# Altium integrated library Altera APEX 20K.IntLib: 93 symbols (part 7 of 14)
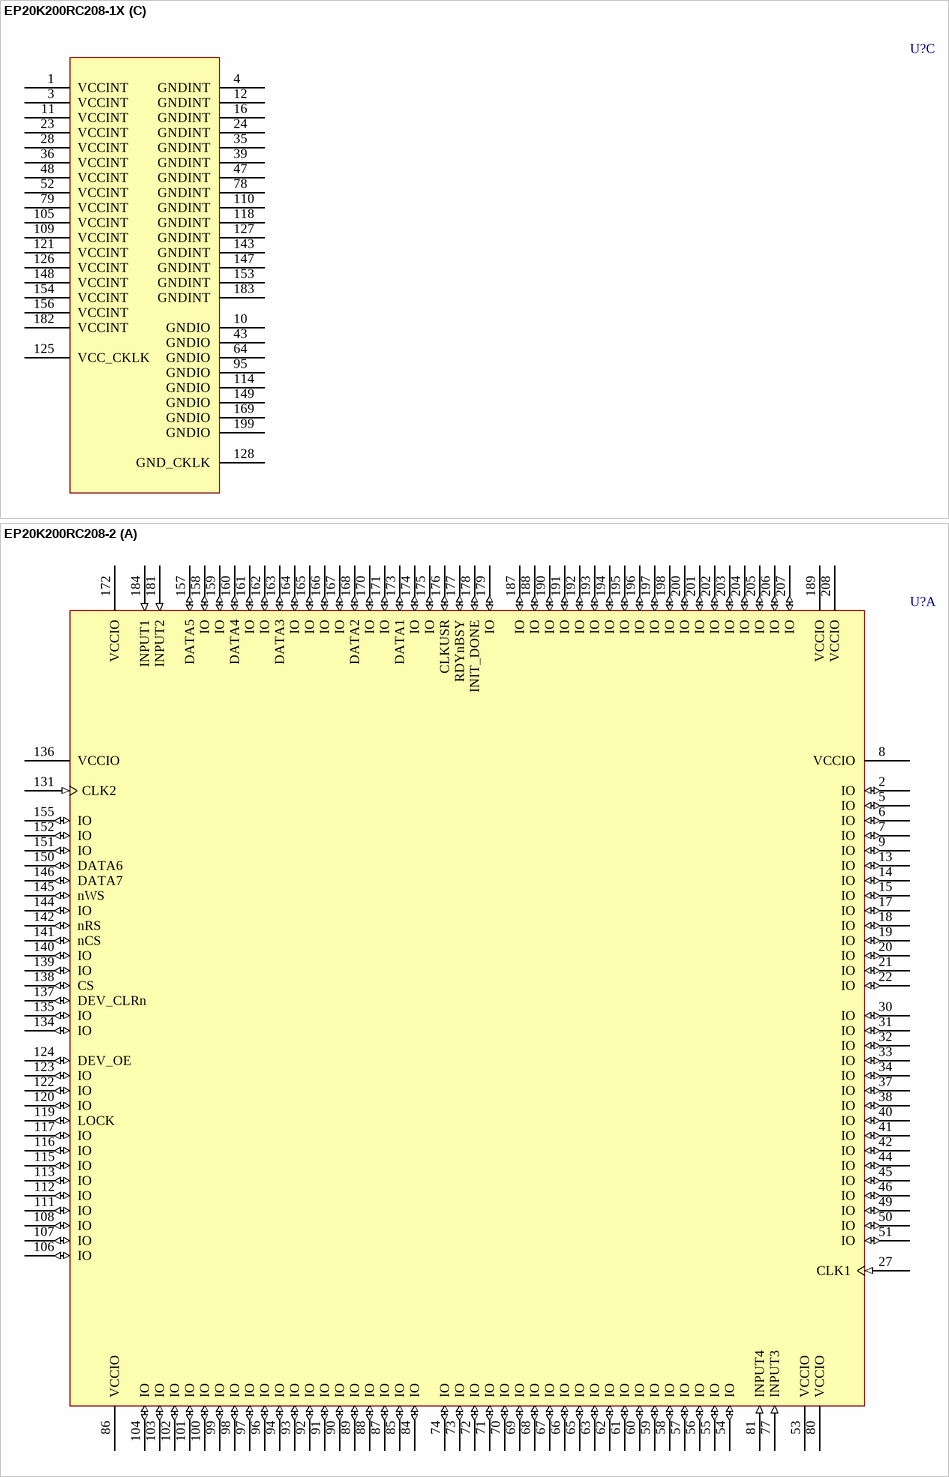
[diagram p205: symbols EP20K200RC208-1X to EP20K200RC208-2]

## EP20K200RC208-1X
designator U?
APEX 20K200 PLD with PLLs, 208-Pin RQFP, Commercial Grade, Speed Grade 1; Published: 17-Jul-2002; LatestRevisionDate: 13-Apr-2006; LatestRevisionNote: IPC-7351 Footprint Added.; DatasheetVersion: Mar-2004; PackageVersion: ver14.1, Oct-2005; PackageReference: RQFP208; Publisher: Altium Limited; PackageDescription: 208-Pin Power Quad Flat Pack (RQFP208); Code_JEDEC: MS-029-FA-1; ComponentLink1Description: Manufacturer Link; ComponentLink1URL: http://www.altera.com/products/devices/apex/apx-index.html; ComponentLink2Description: Datasheet; ComponentLink2URL: http://www.altera.com/literature/ds/apex.pdf
footprint RQFP208_N (Shrink QFP, 208-Leads, Body 28x28mm, Pitch 0.5mm, IPC Medium Density)
footprint RQFP208_L (Shrink QFP, 208-Leads, Body 28x28mm, Pitch 0.5mm, IPC High Density)
footprint RQFP208_M (Shrink QFP, 208-Leads, Body 28x28mm, Pitch 0.5mm, IPC Low Density)
3D model EP20K200-RQFP208 (208-Pin Power Quad Flat Pack (RQFP208))
part A pins: 2 IO (io), 5 IO (io), 6 IO (io), 7 IO (io), 8 VCCIO (power), 9 IO (io), 13 IO (io), 14 IO (io), 15 IO (io), 17 IO (io), 18 IO (io), 19 IO (io), 20 IO (io), 21 IO (io), 22 IO (io), 27 CLK1 (in), 30 IO (io), 31 IO (io), 32 IO (io), 33 IO (io), 34 IO (io), 37 IO (io), 38 IO (io), 40 IO (io), 41 IO (io), 42 IO (io), 44 IO (io), 45 IO (io), 46 IO (io), 49 IO (io), 50 IO (io), 51 IO (io), 53 VCCIO (power), 54 IO (io), 55 IO (io), 56 IO (io), 57 IO (io), 58 IO (io), 59 IO (io), 60 IO (io), 61 IO (io), 62 IO (io), 63 IO (io), 65 IO (io), 66 IO (io), 67 IO (io), 68 IO (io), 69 IO (io), 70 IO (io), 71 IO (io), 72 IO (io), 73 IO (io), 74 IO (io), 77 INPUT3 (in), 80 VCCIO (power), 81 INPUT4 (in), 84 IO (io), 85 IO (io), 86 VCCIO (power), 87 IO (io), 88 IO (io), 89 IO (io), 90 IO (io), 91 IO (io), 92 IO (io), 93 IO (io), 94 IO (io), 96 IO (io), 97 IO (io), 98 IO (io), 99 IO (io), 100 IO (io), 101 IO (io), 102 IO (io), 103 IO (io), 104 IO (io), 106 IO (io), 107 IO (io), 108 IO (io), 111 IO (io), 112 IO (io), 113 IO (io), 115 IO (io), 116 IO (io), 117 IO (io), 119 LOCK (io), 120 IO (io), 122 IO (io), 123 IO (io), 124 DEV_OE (io), 131 CLK2 (in), 134 IO (io), 135 IO (io), 136 VCCIO (power), 137 DEV_CLRn (io), 138 CS (io), 139 IO (io), 140 IO (io), 141 nCS (io), 142 nRS (io), 144 IO (io), 145 nWS (io), 146 DATA7 (io), 150 DATA6 (io), 151 IO (io), 152 IO (io), 155 IO (io), 157 DATA5 (io), 158 IO (io), 159 IO (io), 160 DATA4 (io), 161 IO (io), 162 IO (io), 163 DATA3 (io), 164 IO (io), 165 IO (io), 166 IO (io), 167 IO (io), 168 DATA2 (io), 170 IO (io), 171 IO (io), 172 VCCIO (power), 173 DATA1 (io), 174 IO (io), 175 IO (io), 176 CLKUSR (io), 177 RDYnBSY (io), 178 INIT_DONE (io), 179 IO (io), 181 INPUT2 (in), 184 INPUT1 (in), 187 IO (io), 188 IO (io), 189 VCCIO (power), 190 IO (io), 191 IO (io), 192 IO (io), 193 IO (io), 194 IO (io), 195 IO (io), 196 IO (io), 197 IO (io), 198 IO (io), 200 IO (io), 201 IO (io), 202 IO (io), 203 IO (io), 204 IO (io), 205 IO (io), 206 IO (io), 207 IO (io), 208 VCCIO (power)
part B pins: 25 MSEL0 (in), 26 MSEL1 (in), 29 nCONFIG (in), 75 TMS (in), 76 TCK (in), 82 nSTATUS (io), 83 CONF_DONE (io), 129 TDI (in), 130 nCE (in), 132 DCLK (in), 133 DATA0 (in), 180 TDO (out), 185 nCEO (out), 186 TRST (in)
part C pins: 1 VCCINT (power), 3 VCCINT (power), 4 GNDINT (power), 10 GNDIO (power), 11 VCCINT (power), 12 GNDINT (power), 16 GNDINT (power), 23 VCCINT (power), 24 GNDINT (power), 28 VCCINT (power), 35 GNDINT (power), 36 VCCINT (power), 39 GNDINT (power), 43 GNDIO (power), 47 GNDINT (power), 48 VCCINT (power), 52 VCCINT (power), 64 GNDIO (power), 78 GNDINT (power), 79 VCCINT (power), 95 GNDIO (power), 105 VCCINT (power), 109 VCCINT (power), 110 GNDINT (power), 114 GNDIO (power), 118 GNDINT (power), 121 VCCINT (power), 125 VCC_CKLK (power), 126 VCCINT (power), 127 GNDINT (power), 128 GND_CKLK (power), 143 GNDINT (power), 147 GNDINT (power), 148 VCCINT (power), 149 GNDIO (power), 153 GNDINT (power), 154 VCCINT (power), 156 VCCINT (power), 169 GNDIO (power), 182 VCCINT (power), 183 GNDINT (power), 199 GNDIO (power)

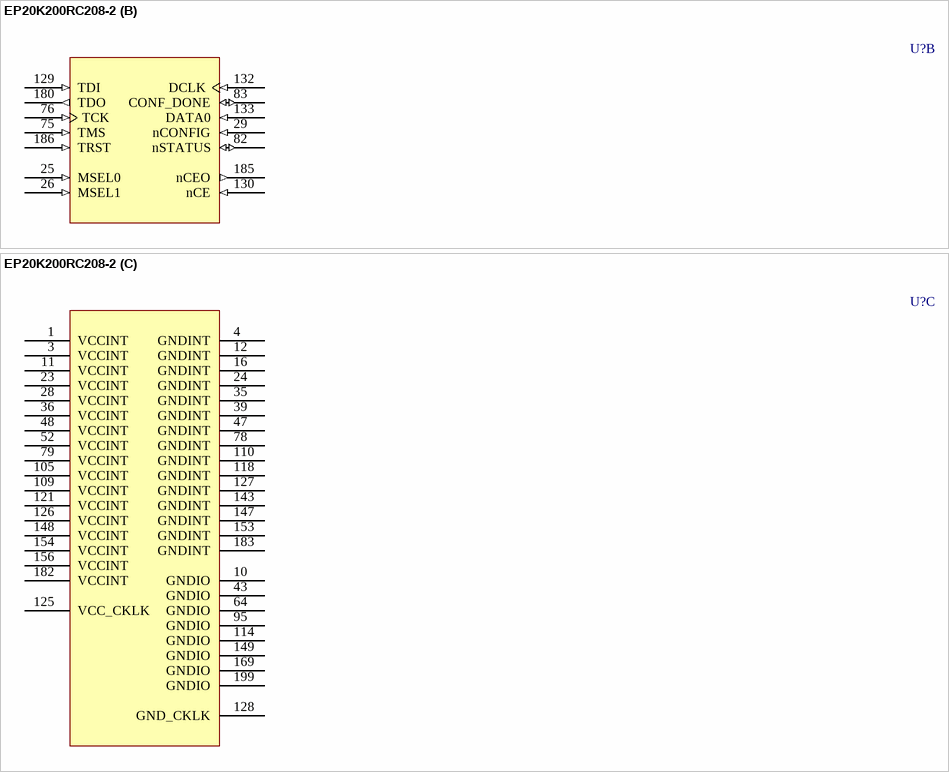
[diagram p72: symbol EP20K200RC208-2]

## EP20K200RC208-2
designator U?
APEX 20K200 PLD, 208-Pin RQFP, Commercial Grade, Speed Grade 2; Published: 17-Jul-2002; LatestRevisionDate: 13-Apr-2006; LatestRevisionNote: IPC-7351 Footprint Added.; DatasheetVersion: Mar-2004; PackageVersion: ver14.1, Oct-2005; PackageReference: RQFP208; Publisher: Altium Limited; PackageDescription: 208-Pin Power Quad Flat Pack (RQFP208); Code_JEDEC: MS-029-FA-1; ComponentLink1Description: Manufacturer Link; ComponentLink1URL: http://www.altera.com/products/devices/apex/apx-index.html; ComponentLink2Description: Datasheet; ComponentLink2URL: http://www.altera.com/literature/ds/apex.pdf
footprint RQFP208_N (Shrink QFP, 208-Leads, Body 28x28mm, Pitch 0.5mm, IPC Medium Density)
footprint RQFP208_L (Shrink QFP, 208-Leads, Body 28x28mm, Pitch 0.5mm, IPC High Density)
footprint RQFP208_M (Shrink QFP, 208-Leads, Body 28x28mm, Pitch 0.5mm, IPC Low Density)
3D model EP20K200-RQFP208 (208-Pin Power Quad Flat Pack (RQFP208))
part A pins: 2 IO (io), 5 IO (io), 6 IO (io), 7 IO (io), 8 VCCIO (power), 9 IO (io), 13 IO (io), 14 IO (io), 15 IO (io), 17 IO (io), 18 IO (io), 19 IO (io), 20 IO (io), 21 IO (io), 22 IO (io), 27 CLK1 (in), 30 IO (io), 31 IO (io), 32 IO (io), 33 IO (io), 34 IO (io), 37 IO (io), 38 IO (io), 40 IO (io), 41 IO (io), 42 IO (io), 44 IO (io), 45 IO (io), 46 IO (io), 49 IO (io), 50 IO (io), 51 IO (io), 53 VCCIO (power), 54 IO (io), 55 IO (io), 56 IO (io), 57 IO (io), 58 IO (io), 59 IO (io), 60 IO (io), 61 IO (io), 62 IO (io), 63 IO (io), 65 IO (io), 66 IO (io), 67 IO (io), 68 IO (io), 69 IO (io), 70 IO (io), 71 IO (io), 72 IO (io), 73 IO (io), 74 IO (io), 77 INPUT3 (in), 80 VCCIO (power), 81 INPUT4 (in), 84 IO (io), 85 IO (io), 86 VCCIO (power), 87 IO (io), 88 IO (io), 89 IO (io), 90 IO (io), 91 IO (io), 92 IO (io), 93 IO (io), 94 IO (io), 96 IO (io), 97 IO (io), 98 IO (io), 99 IO (io), 100 IO (io), 101 IO (io), 102 IO (io), 103 IO (io), 104 IO (io), 106 IO (io), 107 IO (io), 108 IO (io), 111 IO (io), 112 IO (io), 113 IO (io), 115 IO (io), 116 IO (io), 117 IO (io), 119 LOCK (io), 120 IO (io), 122 IO (io), 123 IO (io), 124 DEV_OE (io), 131 CLK2 (in), 134 IO (io), 135 IO (io), 136 VCCIO (power), 137 DEV_CLRn (io), 138 CS (io), 139 IO (io), 140 IO (io), 141 nCS (io), 142 nRS (io), 144 IO (io), 145 nWS (io), 146 DATA7 (io), 150 DATA6 (io), 151 IO (io), 152 IO (io), 155 IO (io), 157 DATA5 (io), 158 IO (io), 159 IO (io), 160 DATA4 (io), 161 IO (io), 162 IO (io), 163 DATA3 (io), 164 IO (io), 165 IO (io), 166 IO (io), 167 IO (io), 168 DATA2 (io), 170 IO (io), 171 IO (io), 172 VCCIO (power), 173 DATA1 (io), 174 IO (io), 175 IO (io), 176 CLKUSR (io), 177 RDYnBSY (io), 178 INIT_DONE (io), 179 IO (io), 181 INPUT2 (in), 184 INPUT1 (in), 187 IO (io), 188 IO (io), 189 VCCIO (power), 190 IO (io), 191 IO (io), 192 IO (io), 193 IO (io), 194 IO (io), 195 IO (io), 196 IO (io), 197 IO (io), 198 IO (io), 200 IO (io), 201 IO (io), 202 IO (io), 203 IO (io), 204 IO (io), 205 IO (io), 206 IO (io), 207 IO (io), 208 VCCIO (power)
part B pins: 25 MSEL0 (in), 26 MSEL1 (in), 29 nCONFIG (in), 75 TMS (in), 76 TCK (in), 82 nSTATUS (io), 83 CONF_DONE (io), 129 TDI (in), 130 nCE (in), 132 DCLK (in), 133 DATA0 (in), 180 TDO (out), 185 nCEO (out), 186 TRST (in)
part C pins: 1 VCCINT (power), 3 VCCINT (power), 4 GNDINT (power), 10 GNDIO (power), 11 VCCINT (power), 12 GNDINT (power), 16 GNDINT (power), 23 VCCINT (power), 24 GNDINT (power), 28 VCCINT (power), 35 GNDINT (power), 36 VCCINT (power), 39 GNDINT (power), 43 GNDIO (power), 47 GNDINT (power), 48 VCCINT (power), 52 VCCINT (power), 64 GNDIO (power), 78 GNDINT (power), 79 VCCINT (power), 95 GNDIO (power), 105 VCCINT (power), 109 VCCINT (power), 110 GNDINT (power), 114 GNDIO (power), 118 GNDINT (power), 121 VCCINT (power), 125 VCC_CKLK (power), 126 VCCINT (power), 127 GNDINT (power), 128 GND_CKLK (power), 143 GNDINT (power), 147 GNDINT (power), 148 VCCINT (power), 149 GNDIO (power), 153 GNDINT (power), 154 VCCINT (power), 156 VCCINT (power), 169 GNDIO (power), 182 VCCINT (power), 183 GNDINT (power), 199 GNDIO (power)

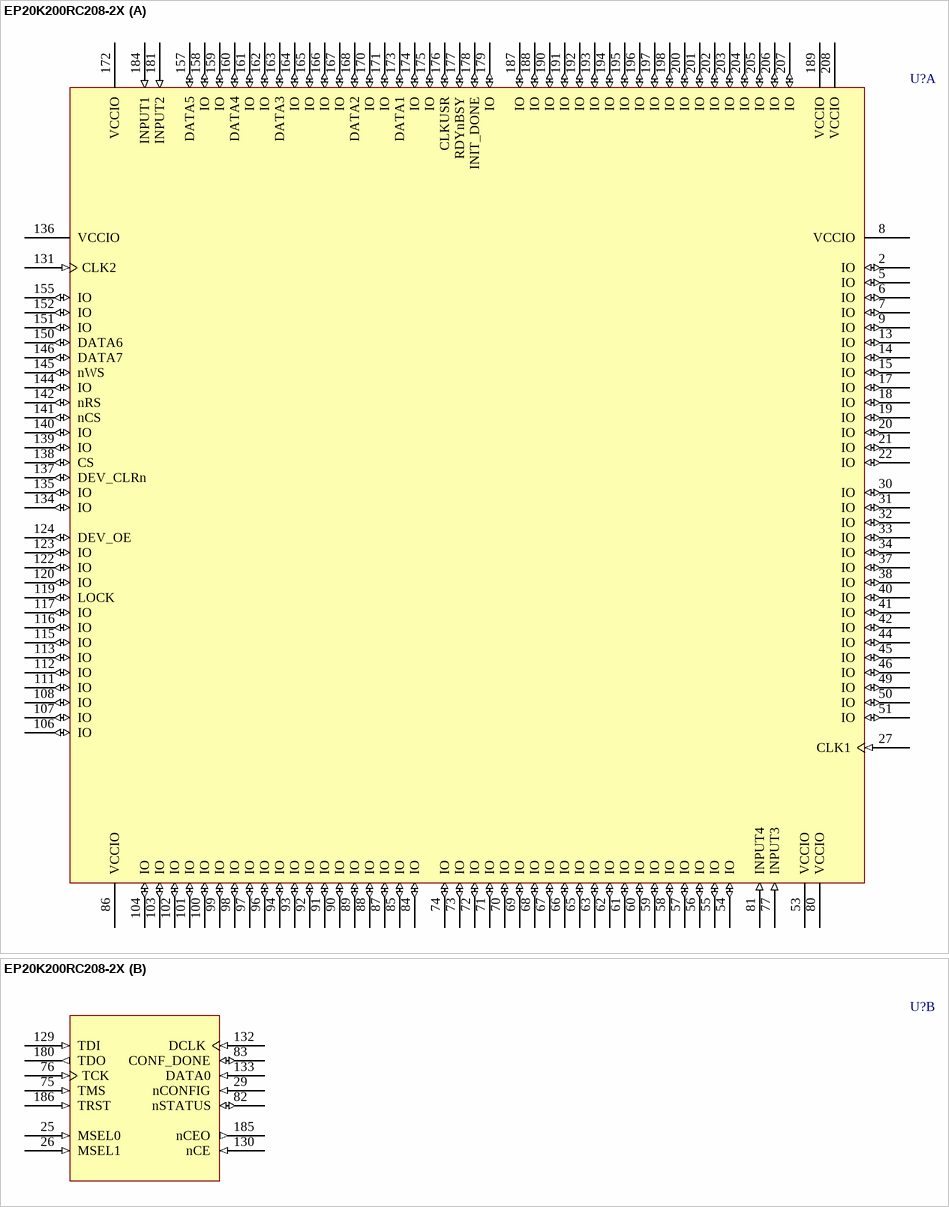
[diagram p73: symbol EP20K200RC208-2X]

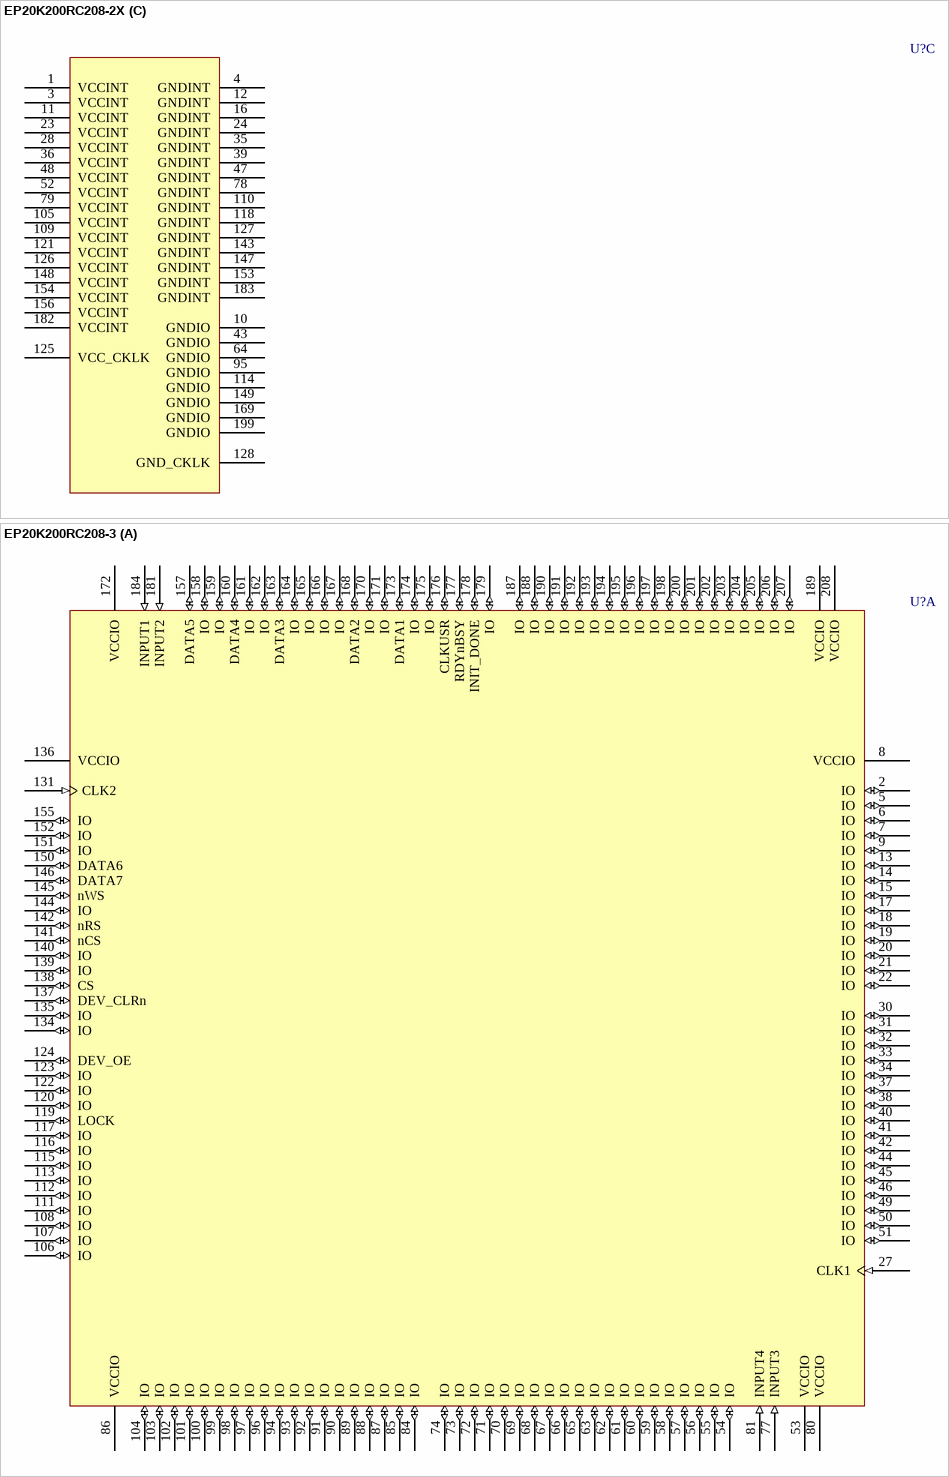
[diagram p74: symbols EP20K200RC208-2X to EP20K200RC208-3]

## EP20K200RC208-2X
designator U?
APEX 20K200 PLD with PLLs, 208-Pin RQFP, Commercial Grade, Speed Grade 2; Published: 17-Jul-2002; LatestRevisionDate: 13-Apr-2006; LatestRevisionNote: IPC-7351 Footprint Added.; DatasheetVersion: Mar-2004; PackageVersion: ver14.1, Oct-2005; PackageReference: RQFP208; Publisher: Altium Limited; PackageDescription: 208-Pin Power Quad Flat Pack (RQFP208); Code_JEDEC: MS-029-FA-1; ComponentLink1Description: Manufacturer Link; ComponentLink1URL: http://www.altera.com/products/devices/apex/apx-index.html; ComponentLink2Description: Datasheet; ComponentLink2URL: http://www.altera.com/literature/ds/apex.pdf
footprint RQFP208_N (Shrink QFP, 208-Leads, Body 28x28mm, Pitch 0.5mm, IPC Medium Density)
footprint RQFP208_L (Shrink QFP, 208-Leads, Body 28x28mm, Pitch 0.5mm, IPC High Density)
footprint RQFP208_M (Shrink QFP, 208-Leads, Body 28x28mm, Pitch 0.5mm, IPC Low Density)
3D model EP20K200-RQFP208 (208-Pin Power Quad Flat Pack (RQFP208))
part A pins: 2 IO (io), 5 IO (io), 6 IO (io), 7 IO (io), 8 VCCIO (power), 9 IO (io), 13 IO (io), 14 IO (io), 15 IO (io), 17 IO (io), 18 IO (io), 19 IO (io), 20 IO (io), 21 IO (io), 22 IO (io), 27 CLK1 (in), 30 IO (io), 31 IO (io), 32 IO (io), 33 IO (io), 34 IO (io), 37 IO (io), 38 IO (io), 40 IO (io), 41 IO (io), 42 IO (io), 44 IO (io), 45 IO (io), 46 IO (io), 49 IO (io), 50 IO (io), 51 IO (io), 53 VCCIO (power), 54 IO (io), 55 IO (io), 56 IO (io), 57 IO (io), 58 IO (io), 59 IO (io), 60 IO (io), 61 IO (io), 62 IO (io), 63 IO (io), 65 IO (io), 66 IO (io), 67 IO (io), 68 IO (io), 69 IO (io), 70 IO (io), 71 IO (io), 72 IO (io), 73 IO (io), 74 IO (io), 77 INPUT3 (in), 80 VCCIO (power), 81 INPUT4 (in), 84 IO (io), 85 IO (io), 86 VCCIO (power), 87 IO (io), 88 IO (io), 89 IO (io), 90 IO (io), 91 IO (io), 92 IO (io), 93 IO (io), 94 IO (io), 96 IO (io), 97 IO (io), 98 IO (io), 99 IO (io), 100 IO (io), 101 IO (io), 102 IO (io), 103 IO (io), 104 IO (io), 106 IO (io), 107 IO (io), 108 IO (io), 111 IO (io), 112 IO (io), 113 IO (io), 115 IO (io), 116 IO (io), 117 IO (io), 119 LOCK (io), 120 IO (io), 122 IO (io), 123 IO (io), 124 DEV_OE (io), 131 CLK2 (in), 134 IO (io), 135 IO (io), 136 VCCIO (power), 137 DEV_CLRn (io), 138 CS (io), 139 IO (io), 140 IO (io), 141 nCS (io), 142 nRS (io), 144 IO (io), 145 nWS (io), 146 DATA7 (io), 150 DATA6 (io), 151 IO (io), 152 IO (io), 155 IO (io), 157 DATA5 (io), 158 IO (io), 159 IO (io), 160 DATA4 (io), 161 IO (io), 162 IO (io), 163 DATA3 (io), 164 IO (io), 165 IO (io), 166 IO (io), 167 IO (io), 168 DATA2 (io), 170 IO (io), 171 IO (io), 172 VCCIO (power), 173 DATA1 (io), 174 IO (io), 175 IO (io), 176 CLKUSR (io), 177 RDYnBSY (io), 178 INIT_DONE (io), 179 IO (io), 181 INPUT2 (in), 184 INPUT1 (in), 187 IO (io), 188 IO (io), 189 VCCIO (power), 190 IO (io), 191 IO (io), 192 IO (io), 193 IO (io), 194 IO (io), 195 IO (io), 196 IO (io), 197 IO (io), 198 IO (io), 200 IO (io), 201 IO (io), 202 IO (io), 203 IO (io), 204 IO (io), 205 IO (io), 206 IO (io), 207 IO (io), 208 VCCIO (power)
part B pins: 25 MSEL0 (in), 26 MSEL1 (in), 29 nCONFIG (in), 75 TMS (in), 76 TCK (in), 82 nSTATUS (io), 83 CONF_DONE (io), 129 TDI (in), 130 nCE (in), 132 DCLK (in), 133 DATA0 (in), 180 TDO (out), 185 nCEO (out), 186 TRST (in)
part C pins: 1 VCCINT (power), 3 VCCINT (power), 4 GNDINT (power), 10 GNDIO (power), 11 VCCINT (power), 12 GNDINT (power), 16 GNDINT (power), 23 VCCINT (power), 24 GNDINT (power), 28 VCCINT (power), 35 GNDINT (power), 36 VCCINT (power), 39 GNDINT (power), 43 GNDIO (power), 47 GNDINT (power), 48 VCCINT (power), 52 VCCINT (power), 64 GNDIO (power), 78 GNDINT (power), 79 VCCINT (power), 95 GNDIO (power), 105 VCCINT (power), 109 VCCINT (power), 110 GNDINT (power), 114 GNDIO (power), 118 GNDINT (power), 121 VCCINT (power), 125 VCC_CKLK (power), 126 VCCINT (power), 127 GNDINT (power), 128 GND_CKLK (power), 143 GNDINT (power), 147 GNDINT (power), 148 VCCINT (power), 149 GNDIO (power), 153 GNDINT (power), 154 VCCINT (power), 156 VCCINT (power), 169 GNDIO (power), 182 VCCINT (power), 183 GNDINT (power), 199 GNDIO (power)

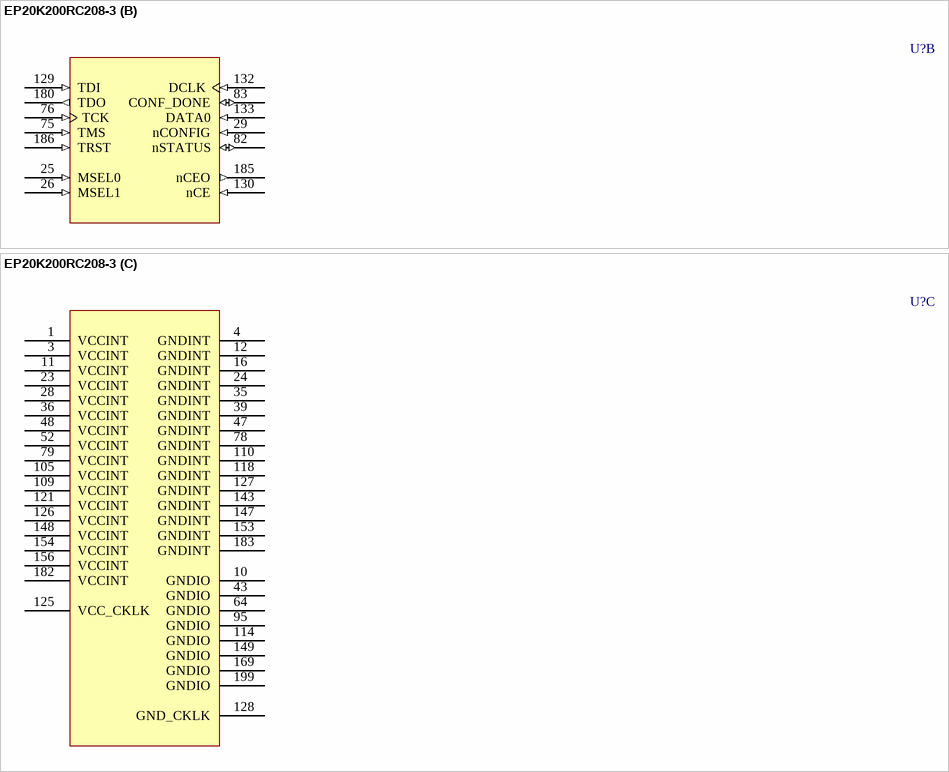
[diagram p75: symbol EP20K200RC208-3]

## EP20K200RC208-3
designator U?
APEX 20K200 PLD, 208-Pin RQFP, Commercial Grade, Speed Grade 3; Published: 17-Jul-2002; LatestRevisionDate: 13-Apr-2006; LatestRevisionNote: IPC-7351 Footprint Added.; DatasheetVersion: Mar-2004; PackageVersion: ver14.1, Oct-2005; PackageReference: RQFP208; Publisher: Altium Limited; PackageDescription: 208-Pin Power Quad Flat Pack (RQFP208); Code_JEDEC: MS-029-FA-1; ComponentLink1Description: Manufacturer Link; ComponentLink1URL: http://www.altera.com/products/devices/apex/apx-index.html; ComponentLink2Description: Datasheet; ComponentLink2URL: http://www.altera.com/literature/ds/apex.pdf
footprint RQFP208_N (Shrink QFP, 208-Leads, Body 28x28mm, Pitch 0.5mm, IPC Medium Density)
footprint RQFP208_L (Shrink QFP, 208-Leads, Body 28x28mm, Pitch 0.5mm, IPC High Density)
footprint RQFP208_M (Shrink QFP, 208-Leads, Body 28x28mm, Pitch 0.5mm, IPC Low Density)
3D model EP20K200-RQFP208 (208-Pin Power Quad Flat Pack (RQFP208))
part A pins: 2 IO (io), 5 IO (io), 6 IO (io), 7 IO (io), 8 VCCIO (power), 9 IO (io), 13 IO (io), 14 IO (io), 15 IO (io), 17 IO (io), 18 IO (io), 19 IO (io), 20 IO (io), 21 IO (io), 22 IO (io), 27 CLK1 (in), 30 IO (io), 31 IO (io), 32 IO (io), 33 IO (io), 34 IO (io), 37 IO (io), 38 IO (io), 40 IO (io), 41 IO (io), 42 IO (io), 44 IO (io), 45 IO (io), 46 IO (io), 49 IO (io), 50 IO (io), 51 IO (io), 53 VCCIO (power), 54 IO (io), 55 IO (io), 56 IO (io), 57 IO (io), 58 IO (io), 59 IO (io), 60 IO (io), 61 IO (io), 62 IO (io), 63 IO (io), 65 IO (io), 66 IO (io), 67 IO (io), 68 IO (io), 69 IO (io), 70 IO (io), 71 IO (io), 72 IO (io), 73 IO (io), 74 IO (io), 77 INPUT3 (in), 80 VCCIO (power), 81 INPUT4 (in), 84 IO (io), 85 IO (io), 86 VCCIO (power), 87 IO (io), 88 IO (io), 89 IO (io), 90 IO (io), 91 IO (io), 92 IO (io), 93 IO (io), 94 IO (io), 96 IO (io), 97 IO (io), 98 IO (io), 99 IO (io), 100 IO (io), 101 IO (io), 102 IO (io), 103 IO (io), 104 IO (io), 106 IO (io), 107 IO (io), 108 IO (io), 111 IO (io), 112 IO (io), 113 IO (io), 115 IO (io), 116 IO (io), 117 IO (io), 119 LOCK (io), 120 IO (io), 122 IO (io), 123 IO (io), 124 DEV_OE (io), 131 CLK2 (in), 134 IO (io), 135 IO (io), 136 VCCIO (power), 137 DEV_CLRn (io), 138 CS (io), 139 IO (io), 140 IO (io), 141 nCS (io), 142 nRS (io), 144 IO (io), 145 nWS (io), 146 DATA7 (io), 150 DATA6 (io), 151 IO (io), 152 IO (io), 155 IO (io), 157 DATA5 (io), 158 IO (io), 159 IO (io), 160 DATA4 (io), 161 IO (io), 162 IO (io), 163 DATA3 (io), 164 IO (io), 165 IO (io), 166 IO (io), 167 IO (io), 168 DATA2 (io), 170 IO (io), 171 IO (io), 172 VCCIO (power), 173 DATA1 (io), 174 IO (io), 175 IO (io), 176 CLKUSR (io), 177 RDYnBSY (io), 178 INIT_DONE (io), 179 IO (io), 181 INPUT2 (in), 184 INPUT1 (in), 187 IO (io), 188 IO (io), 189 VCCIO (power), 190 IO (io), 191 IO (io), 192 IO (io), 193 IO (io), 194 IO (io), 195 IO (io), 196 IO (io), 197 IO (io), 198 IO (io), 200 IO (io), 201 IO (io), 202 IO (io), 203 IO (io), 204 IO (io), 205 IO (io), 206 IO (io), 207 IO (io), 208 VCCIO (power)
part B pins: 25 MSEL0 (in), 26 MSEL1 (in), 29 nCONFIG (in), 75 TMS (in), 76 TCK (in), 82 nSTATUS (io), 83 CONF_DONE (io), 129 TDI (in), 130 nCE (in), 132 DCLK (in), 133 DATA0 (in), 180 TDO (out), 185 nCEO (out), 186 TRST (in)
part C pins: 1 VCCINT (power), 3 VCCINT (power), 4 GNDINT (power), 10 GNDIO (power), 11 VCCINT (power), 12 GNDINT (power), 16 GNDINT (power), 23 VCCINT (power), 24 GNDINT (power), 28 VCCINT (power), 35 GNDINT (power), 36 VCCINT (power), 39 GNDINT (power), 43 GNDIO (power), 47 GNDINT (power), 48 VCCINT (power), 52 VCCINT (power), 64 GNDIO (power), 78 GNDINT (power), 79 VCCINT (power), 95 GNDIO (power), 105 VCCINT (power), 109 VCCINT (power), 110 GNDINT (power), 114 GNDIO (power), 118 GNDINT (power), 121 VCCINT (power), 125 VCC_CKLK (power), 126 VCCINT (power), 127 GNDINT (power), 128 GND_CKLK (power), 143 GNDINT (power), 147 GNDINT (power), 148 VCCINT (power), 149 GNDIO (power), 153 GNDINT (power), 154 VCCINT (power), 156 VCCINT (power), 169 GNDIO (power), 182 VCCINT (power), 183 GNDINT (power), 199 GNDIO (power)

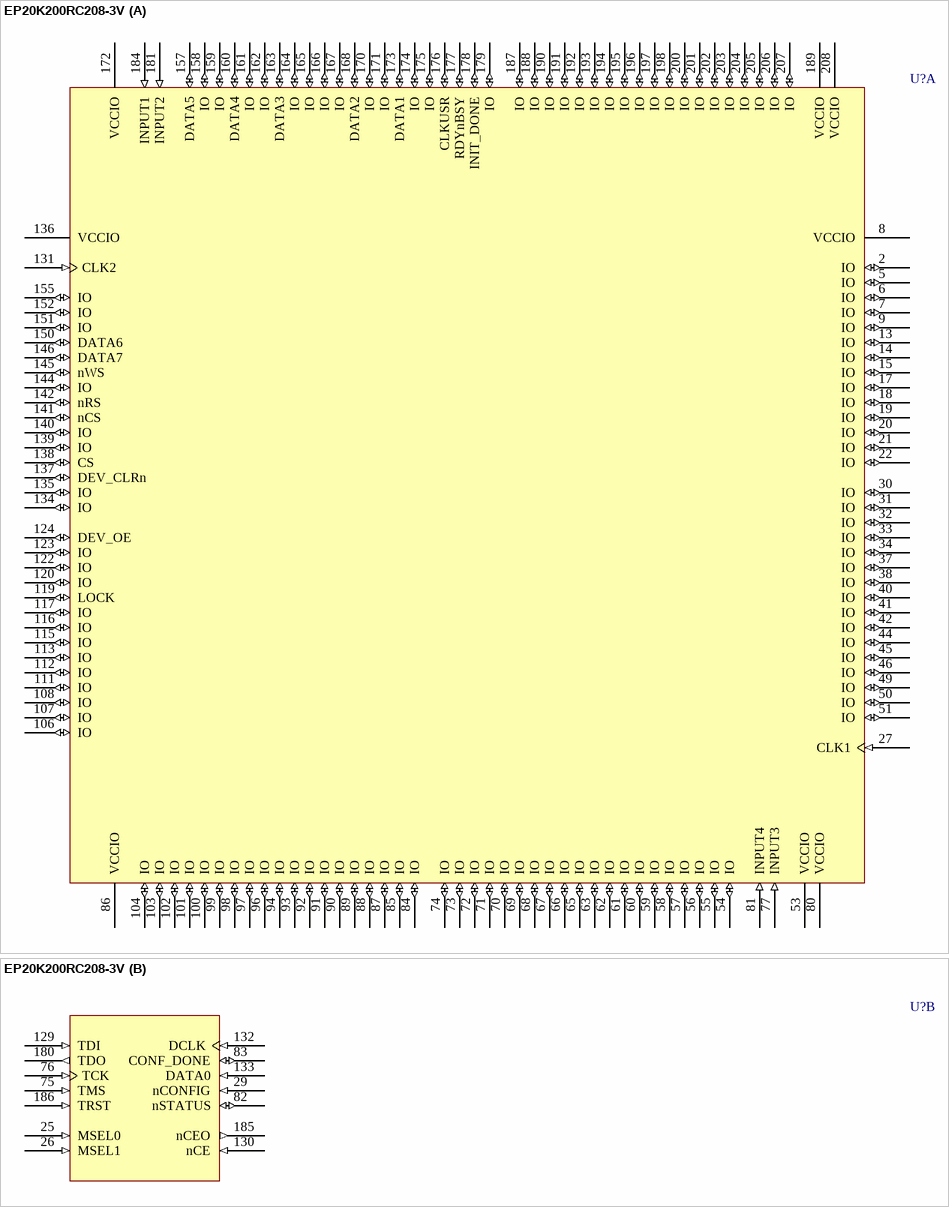
[diagram p76: symbol EP20K200RC208-3V]

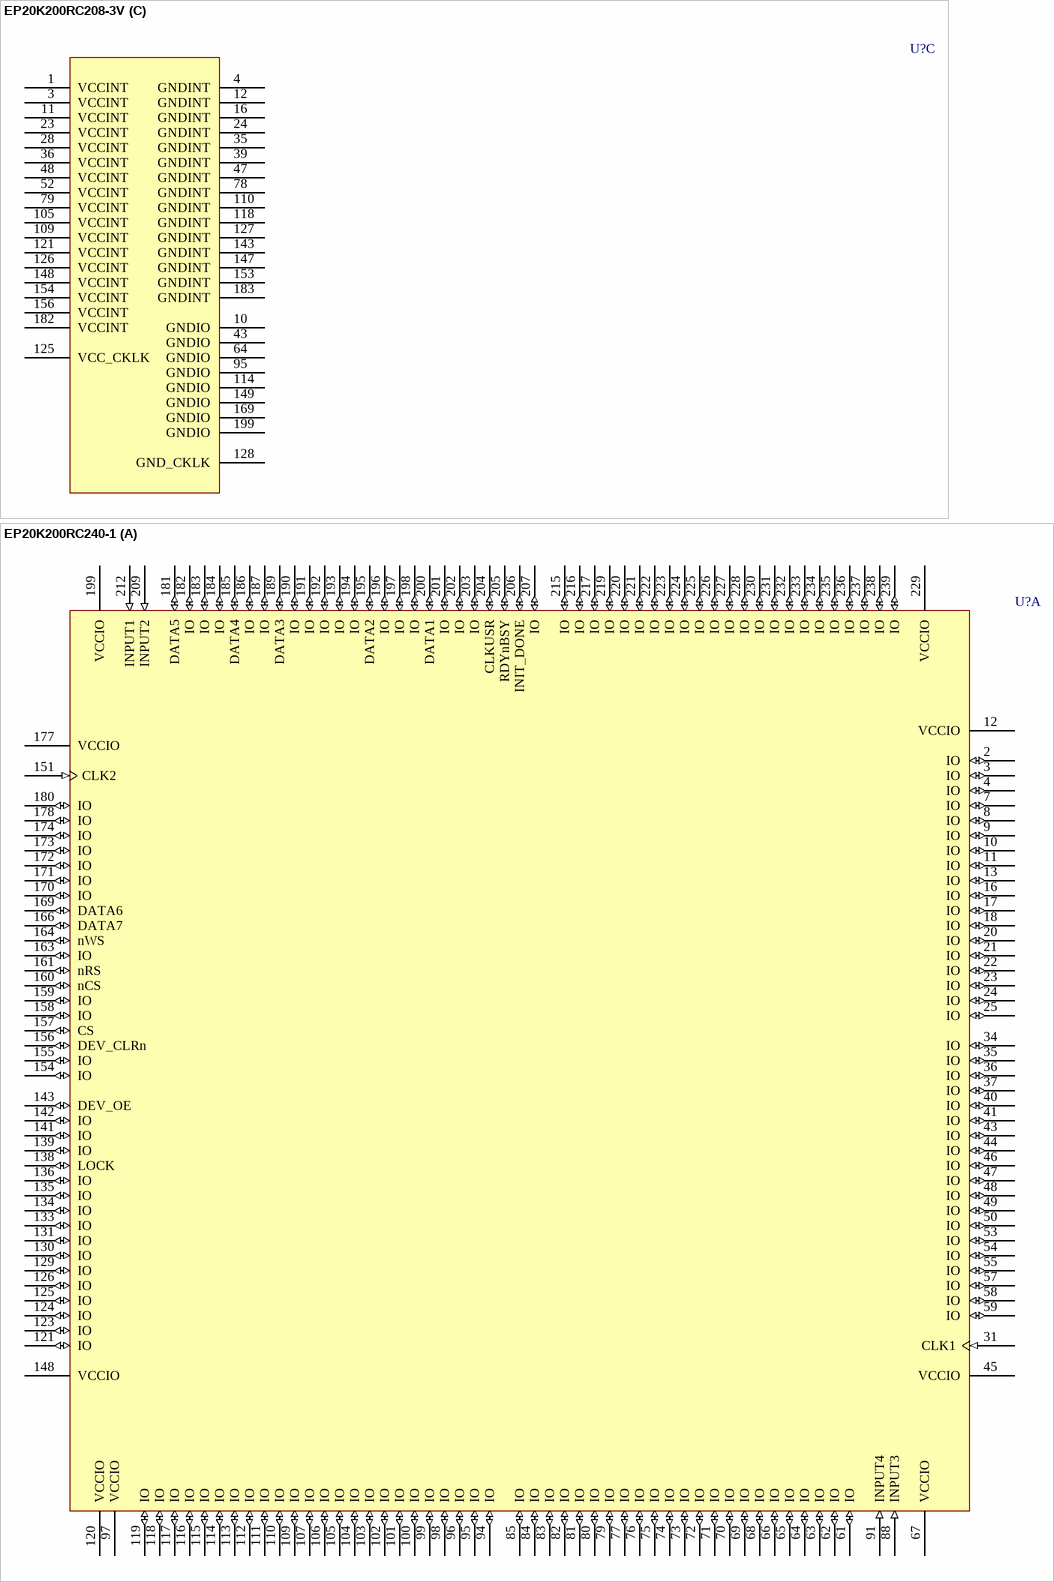
[diagram p77: symbols EP20K200RC208-3V to EP20K200RC240-1]

## EP20K200RC208-3V
designator U?
APEX 20K200  PLD with 5 V tolerant inputs, 208-Pin RQFP, Commercial Grade, Speed Grade 3; Published: 17-Jul-2002; LatestRevisionDate: 13-Apr-2006; LatestRevisionNote: IPC-7351 Footprint Added.; DatasheetVersion: Mar-2004; PackageVersion: ver14.1, Oct-2005; PackageReference: RQFP208; Publisher: Altium Limited; PackageDescription: 208-Pin Power Quad Flat Pack (RQFP208); Code_JEDEC: MS-029-FA-1; ComponentLink1Description: Manufacturer Link; ComponentLink1URL: http://www.altera.com/products/devices/apex/apx-index.html; ComponentLink2Description: Datasheet; ComponentLink2URL: http://www.altera.com/literature/ds/apex.pdf
footprint RQFP208_N (Shrink QFP, 208-Leads, Body 28x28mm, Pitch 0.5mm, IPC Medium Density)
footprint RQFP208_L (Shrink QFP, 208-Leads, Body 28x28mm, Pitch 0.5mm, IPC High Density)
footprint RQFP208_M (Shrink QFP, 208-Leads, Body 28x28mm, Pitch 0.5mm, IPC Low Density)
3D model EP20K200-RQFP208 (208-Pin Power Quad Flat Pack (RQFP208))
part A pins: 2 IO (io), 5 IO (io), 6 IO (io), 7 IO (io), 8 VCCIO (power), 9 IO (io), 13 IO (io), 14 IO (io), 15 IO (io), 17 IO (io), 18 IO (io), 19 IO (io), 20 IO (io), 21 IO (io), 22 IO (io), 27 CLK1 (in), 30 IO (io), 31 IO (io), 32 IO (io), 33 IO (io), 34 IO (io), 37 IO (io), 38 IO (io), 40 IO (io), 41 IO (io), 42 IO (io), 44 IO (io), 45 IO (io), 46 IO (io), 49 IO (io), 50 IO (io), 51 IO (io), 53 VCCIO (power), 54 IO (io), 55 IO (io), 56 IO (io), 57 IO (io), 58 IO (io), 59 IO (io), 60 IO (io), 61 IO (io), 62 IO (io), 63 IO (io), 65 IO (io), 66 IO (io), 67 IO (io), 68 IO (io), 69 IO (io), 70 IO (io), 71 IO (io), 72 IO (io), 73 IO (io), 74 IO (io), 77 INPUT3 (in), 80 VCCIO (power), 81 INPUT4 (in), 84 IO (io), 85 IO (io), 86 VCCIO (power), 87 IO (io), 88 IO (io), 89 IO (io), 90 IO (io), 91 IO (io), 92 IO (io), 93 IO (io), 94 IO (io), 96 IO (io), 97 IO (io), 98 IO (io), 99 IO (io), 100 IO (io), 101 IO (io), 102 IO (io), 103 IO (io), 104 IO (io), 106 IO (io), 107 IO (io), 108 IO (io), 111 IO (io), 112 IO (io), 113 IO (io), 115 IO (io), 116 IO (io), 117 IO (io), 119 LOCK (io), 120 IO (io), 122 IO (io), 123 IO (io), 124 DEV_OE (io), 131 CLK2 (in), 134 IO (io), 135 IO (io), 136 VCCIO (power), 137 DEV_CLRn (io), 138 CS (io), 139 IO (io), 140 IO (io), 141 nCS (io), 142 nRS (io), 144 IO (io), 145 nWS (io), 146 DATA7 (io), 150 DATA6 (io), 151 IO (io), 152 IO (io), 155 IO (io), 157 DATA5 (io), 158 IO (io), 159 IO (io), 160 DATA4 (io), 161 IO (io), 162 IO (io), 163 DATA3 (io), 164 IO (io), 165 IO (io), 166 IO (io), 167 IO (io), 168 DATA2 (io), 170 IO (io), 171 IO (io), 172 VCCIO (power), 173 DATA1 (io), 174 IO (io), 175 IO (io), 176 CLKUSR (io), 177 RDYnBSY (io), 178 INIT_DONE (io), 179 IO (io), 181 INPUT2 (in), 184 INPUT1 (in), 187 IO (io), 188 IO (io), 189 VCCIO (power), 190 IO (io), 191 IO (io), 192 IO (io), 193 IO (io), 194 IO (io), 195 IO (io), 196 IO (io), 197 IO (io), 198 IO (io), 200 IO (io), 201 IO (io), 202 IO (io), 203 IO (io), 204 IO (io), 205 IO (io), 206 IO (io), 207 IO (io), 208 VCCIO (power)
part B pins: 25 MSEL0 (in), 26 MSEL1 (in), 29 nCONFIG (in), 75 TMS (in), 76 TCK (in), 82 nSTATUS (io), 83 CONF_DONE (io), 129 TDI (in), 130 nCE (in), 132 DCLK (in), 133 DATA0 (in), 180 TDO (out), 185 nCEO (out), 186 TRST (in)
part C pins: 1 VCCINT (power), 3 VCCINT (power), 4 GNDINT (power), 10 GNDIO (power), 11 VCCINT (power), 12 GNDINT (power), 16 GNDINT (power), 23 VCCINT (power), 24 GNDINT (power), 28 VCCINT (power), 35 GNDINT (power), 36 VCCINT (power), 39 GNDINT (power), 43 GNDIO (power), 47 GNDINT (power), 48 VCCINT (power), 52 VCCINT (power), 64 GNDIO (power), 78 GNDINT (power), 79 VCCINT (power), 95 GNDIO (power), 105 VCCINT (power), 109 VCCINT (power), 110 GNDINT (power), 114 GNDIO (power), 118 GNDINT (power), 121 VCCINT (power), 125 VCC_CKLK (power), 126 VCCINT (power), 127 GNDINT (power), 128 GND_CKLK (power), 143 GNDINT (power), 147 GNDINT (power), 148 VCCINT (power), 149 GNDIO (power), 153 GNDINT (power), 154 VCCINT (power), 156 VCCINT (power), 169 GNDIO (power), 182 VCCINT (power), 183 GNDINT (power), 199 GNDIO (power)

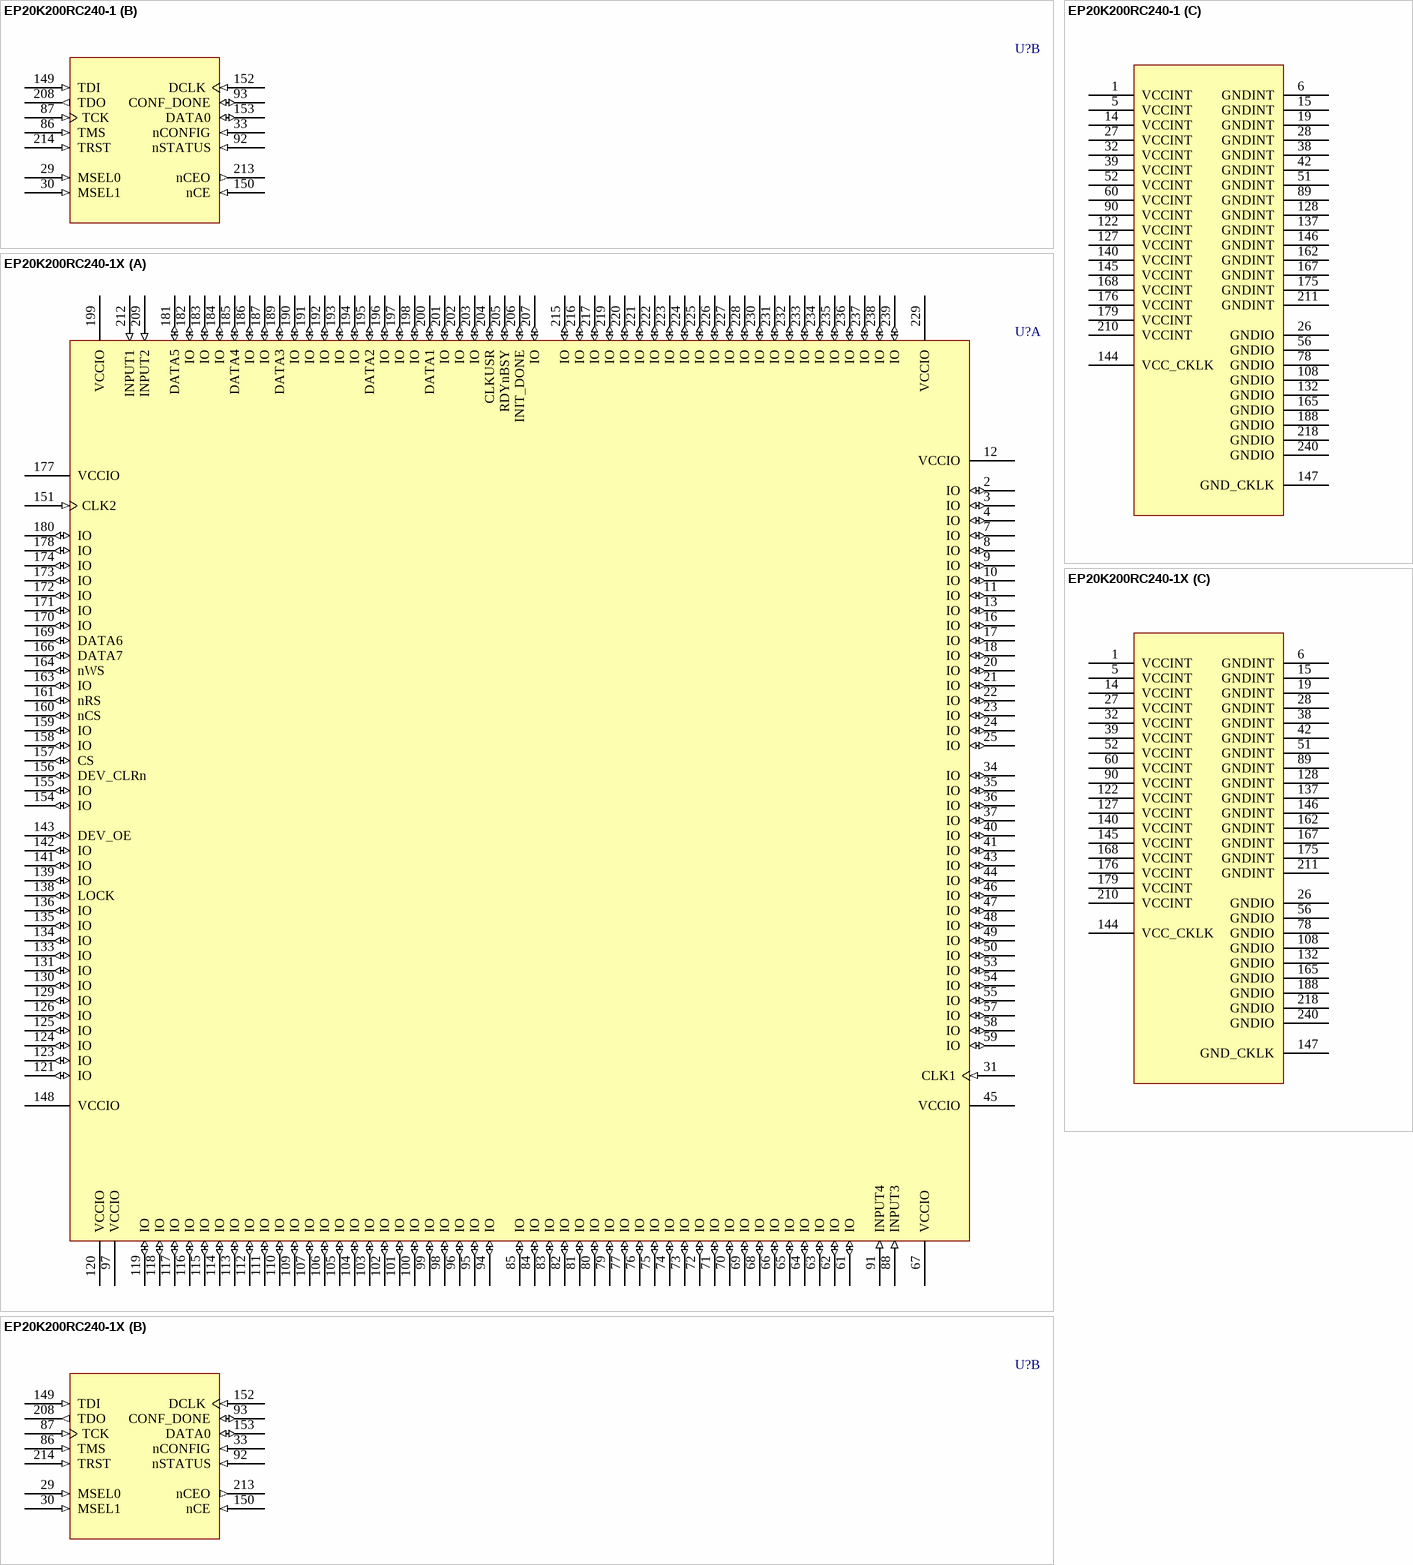
[diagram p78: symbols EP20K200RC240-1 to EP20K200RC240-1X]

## EP20K200RC240-1
designator U?
APEX 20K200 PLD, 240-Pin RQFP, Commercial Grade, Speed Grade 1; Published: 17-Jul-2002; LatestRevisionDate: 13-Apr-2006; LatestRevisionNote: IPC-7351 Footprint Added.; DatasheetVersion: Mar-2004; PackageVersion: ver14.1, Oct-2005; PackageReference: RQFP240; Publisher: Altium Limited; PackageDescription: 240-Pin Power Quad Flat Pack (RQFP240); Code_JEDEC: MS-029-GA; ComponentLink1Description: Manufacturer Link; ComponentLink1URL: http://www.altera.com/products/devices/apex/apx-index.html; ComponentLink2Description: Datasheet; ComponentLink2URL: http://www.altera.com/literature/ds/apex.pdf
footprint RQFP240_N (Shrink QFP, 240-Leads, Body 32x32mm, Pitch 0.5mm, IPC Medium Density)
footprint RQFP240_L (Shrink QFP, 240-Leads, Body 32x32mm, Pitch 0.5mm, IPC High Density)
footprint RQFP240_M (Shrink QFP, 240-Leads, Body 32x32mm, Pitch 0.5mm, IPC Low Density)
3D model EP20K200-RQFP240 (240-Pin Power Quad Flat Pack (RQFP240))
part A pins: 2 IO (io), 3 IO (io), 4 IO (io), 7 IO (io), 8 IO (io), 9 IO (io), 10 IO (io), 11 IO (io), 12 VCCIO (power), 13 IO (io), 16 IO (io), 17 IO (io), 18 IO (io), 20 IO (io), 21 IO (io), 22 IO (io), 23 IO (io), 24 IO (io), 25 IO (io), 31 CLK1 (in), 34 IO (io), 35 IO (io), 36 IO (io), 37 IO (io), 40 IO (io), 41 IO (io), 43 IO (io), 44 IO (io), 45 VCCIO (power), 46 IO (io), 47 IO (io), 48 IO (io), 49 IO (io), 50 IO (io), 53 IO (io), 54 IO (io), 55 IO (io), 57 IO (io), 58 IO (io), 59 IO (io), 61 IO (io), 62 IO (io), 63 IO (io), 64 IO (io), 65 IO (io), 66 IO (io), 67 VCCIO (power), 68 IO (io), 69 IO (io), 70 IO (io), 71 IO (io), 72 IO (io), 73 IO (io), 74 IO (io), 75 IO (io), 76 IO (io), 77 IO (io), 79 IO (io), 80 IO (io), 81 IO (io), 82 IO (io), 83 IO (io), 84 IO (io), 85 IO (io), 88 INPUT3 (in), 91 INPUT4 (in), 94 IO (io), 95 IO (io), 96 IO (io), 97 VCCIO (power), 98 IO (io), 99 IO (io), 100 IO (io), 101 IO (io), 102 IO (io), 103 IO (io), 104 IO (io), 105 IO (io), 106 IO (io), 107 IO (io), 109 IO (io), 110 IO (io), 111 IO (io), 112 IO (io), 113 IO (io), 114 IO (io), 115 IO (io), 116 IO (io), 117 IO (io), 118 IO (io), 119 IO (io), 120 VCCIO (power), 121 IO (io), 123 IO (io), 124 IO (io), 125 IO (io), 126 IO (io), 129 IO (io), 130 IO (io), 131 IO (io), 133 IO (io), 134 IO (io), 135 IO (io), 136 IO (io), 138 LOCK (io), 139 IO (io), 141 IO (io), 142 IO (io), 143 DEV_OE (io), 148 VCCIO (power), 151 CLK2 (in), 154 IO (io), 155 IO (io), 156 DEV_CLRn (io), 157 CS (io), 158 IO (io), 159 IO (io), 160 nCS (io), 161 nRS (io), 163 IO (io), 164 nWS (io), 166 DATA7 (io), 169 DATA6 (io), 170 IO (io), 171 IO (io), 172 IO (io), 173 IO (io), 174 IO (io), 177 VCCIO (power), 178 IO (io), 180 IO (io), 181 DATA5 (io), 182 IO (io), 183 IO (io), 184 IO (io), 185 DATA4 (io), 186 IO (io), 187 IO (io), 189 DATA3 (io), 190 IO (io), 191 IO (io), 192 IO (io), 193 IO (io), 194 IO (io), 195 DATA2 (io), 196 IO (io), 197 IO (io), 198 IO (io), 199 VCCIO (power), 200 DATA1 (io), 201 IO (io), 202 IO (io), 203 IO (io), 204 CLKUSR (io), 205 RDYnBSY (io), 206 INIT_DONE (io), 207 IO (io), 209 INPUT2 (in), 212 INPUT1 (in), 215 IO (io), 216 IO (io), 217 IO (io), 219 IO (io), 220 IO (io), 221 IO (io), 222 IO (io), 223 IO (io), 224 IO (io), 225 IO (io), 226 IO (io), 227 IO (io), 228 IO (io), 229 VCCIO (power), 230 IO (io), 231 IO (io), 232 IO (io), 233 IO (io), 234 IO (io), 235 IO (io), 236 IO (io), 237 IO (io), 238 IO (io), 239 IO (io)
part B pins: 29 MSEL0 (in), 30 MSEL1 (in), 33 nCONFIG (in), 86 TMS (in), 87 TCK (in), 92 nSTATUS (in), 93 CONF_DONE (io), 149 TDI (in), 150 nCE (in), 152 DCLK (in), 153 DATA0 (io), 208 TDO (out), 213 nCEO (out), 214 TRST (in)
part C pins: 1 VCCINT (power), 5 VCCINT (power), 6 GNDINT (power), 14 VCCINT (power), 15 GNDINT (power), 19 GNDINT (power), 26 GNDIO (power), 27 VCCINT (power), 28 GNDINT (power), 32 VCCINT (power), 38 GNDINT (power), 39 VCCINT (power), 42 GNDINT (power), 51 GNDINT (power), 52 VCCINT (power), 56 GNDIO (power), 60 VCCINT (power), 78 GNDIO (power), 89 GNDINT (power), 90 VCCINT (power), 108 GNDIO (power), 122 VCCINT (power), 127 VCCINT (power), 128 GNDINT (power), 132 GNDIO (power), 137 GNDINT (power), 140 VCCINT (power), 144 VCC_CKLK (power), 145 VCCINT (power), 146 GNDINT (power), 147 GND_CKLK (power), 162 GNDINT (power), 165 GNDIO (power), 167 GNDINT (power), 168 VCCINT (power), 175 GNDINT (power), 176 VCCINT (power), 179 VCCINT (power), 188 GNDIO (power), 210 VCCINT (power), 211 GNDINT (power), 218 GNDIO (power), 240 GNDIO (power)

## EP20K200RC240-1X
designator U?
APEX 20K200 PLD with PLLs, 240-Pin RQFP, Commercial Grade, Speed Grade 1; Published: 17-Jul-2002; LatestRevisionDate: 13-Apr-2006; LatestRevisionNote: IPC-7351 Footprint Added.; DatasheetVersion: Mar-2004; PackageVersion: ver14.1, Oct-2005; PackageReference: RQFP240; Publisher: Altium Limited; PackageDescription: 240-Pin Power Quad Flat Pack (RQFP240); Code_JEDEC: MS-029-GA; ComponentLink1Description: Manufacturer Link; ComponentLink1URL: http://www.altera.com/products/devices/apex/apx-index.html; ComponentLink2Description: Datasheet; ComponentLink2URL: http://www.altera.com/literature/ds/apex.pdf
footprint RQFP240_N (Shrink QFP, 240-Leads, Body 32x32mm, Pitch 0.5mm, IPC Medium Density)
footprint RQFP240_L (Shrink QFP, 240-Leads, Body 32x32mm, Pitch 0.5mm, IPC High Density)
footprint RQFP240_M (Shrink QFP, 240-Leads, Body 32x32mm, Pitch 0.5mm, IPC Low Density)
3D model EP20K200-RQFP240 (240-Pin Power Quad Flat Pack (RQFP240))
part A pins: 2 IO (io), 3 IO (io), 4 IO (io), 7 IO (io), 8 IO (io), 9 IO (io), 10 IO (io), 11 IO (io), 12 VCCIO (power), 13 IO (io), 16 IO (io), 17 IO (io), 18 IO (io), 20 IO (io), 21 IO (io), 22 IO (io), 23 IO (io), 24 IO (io), 25 IO (io), 31 CLK1 (in), 34 IO (io), 35 IO (io), 36 IO (io), 37 IO (io), 40 IO (io), 41 IO (io), 43 IO (io), 44 IO (io), 45 VCCIO (power), 46 IO (io), 47 IO (io), 48 IO (io), 49 IO (io), 50 IO (io), 53 IO (io), 54 IO (io), 55 IO (io), 57 IO (io), 58 IO (io), 59 IO (io), 61 IO (io), 62 IO (io), 63 IO (io), 64 IO (io), 65 IO (io), 66 IO (io), 67 VCCIO (power), 68 IO (io), 69 IO (io), 70 IO (io), 71 IO (io), 72 IO (io), 73 IO (io), 74 IO (io), 75 IO (io), 76 IO (io), 77 IO (io), 79 IO (io), 80 IO (io), 81 IO (io), 82 IO (io), 83 IO (io), 84 IO (io), 85 IO (io), 88 INPUT3 (in), 91 INPUT4 (in), 94 IO (io), 95 IO (io), 96 IO (io), 97 VCCIO (power), 98 IO (io), 99 IO (io), 100 IO (io), 101 IO (io), 102 IO (io), 103 IO (io), 104 IO (io), 105 IO (io), 106 IO (io), 107 IO (io), 109 IO (io), 110 IO (io), 111 IO (io), 112 IO (io), 113 IO (io), 114 IO (io), 115 IO (io), 116 IO (io), 117 IO (io), 118 IO (io), 119 IO (io), 120 VCCIO (power), 121 IO (io), 123 IO (io), 124 IO (io), 125 IO (io), 126 IO (io), 129 IO (io), 130 IO (io), 131 IO (io), 133 IO (io), 134 IO (io), 135 IO (io), 136 IO (io), 138 LOCK (io), 139 IO (io), 141 IO (io), 142 IO (io), 143 DEV_OE (io), 148 VCCIO (power), 151 CLK2 (in), 154 IO (io), 155 IO (io), 156 DEV_CLRn (io), 157 CS (io), 158 IO (io), 159 IO (io), 160 nCS (io), 161 nRS (io), 163 IO (io), 164 nWS (io), 166 DATA7 (io), 169 DATA6 (io), 170 IO (io), 171 IO (io), 172 IO (io), 173 IO (io), 174 IO (io), 177 VCCIO (power), 178 IO (io), 180 IO (io), 181 DATA5 (io), 182 IO (io), 183 IO (io), 184 IO (io), 185 DATA4 (io), 186 IO (io), 187 IO (io), 189 DATA3 (io), 190 IO (io), 191 IO (io), 192 IO (io), 193 IO (io), 194 IO (io), 195 DATA2 (io), 196 IO (io), 197 IO (io), 198 IO (io), 199 VCCIO (power), 200 DATA1 (io), 201 IO (io), 202 IO (io), 203 IO (io), 204 CLKUSR (io), 205 RDYnBSY (io), 206 INIT_DONE (io), 207 IO (io), 209 INPUT2 (in), 212 INPUT1 (in), 215 IO (io), 216 IO (io), 217 IO (io), 219 IO (io), 220 IO (io), 221 IO (io), 222 IO (io), 223 IO (io), 224 IO (io), 225 IO (io), 226 IO (io), 227 IO (io), 228 IO (io), 229 VCCIO (power), 230 IO (io), 231 IO (io), 232 IO (io), 233 IO (io), 234 IO (io), 235 IO (io), 236 IO (io), 237 IO (io), 238 IO (io), 239 IO (io)
part B pins: 29 MSEL0 (in), 30 MSEL1 (in), 33 nCONFIG (in), 86 TMS (in), 87 TCK (in), 92 nSTATUS (in), 93 CONF_DONE (io), 149 TDI (in), 150 nCE (in), 152 DCLK (in), 153 DATA0 (io), 208 TDO (out), 213 nCEO (out), 214 TRST (in)
part C pins: 1 VCCINT (power), 5 VCCINT (power), 6 GNDINT (power), 14 VCCINT (power), 15 GNDINT (power), 19 GNDINT (power), 26 GNDIO (power), 27 VCCINT (power), 28 GNDINT (power), 32 VCCINT (power), 38 GNDINT (power), 39 VCCINT (power), 42 GNDINT (power), 51 GNDINT (power), 52 VCCINT (power), 56 GNDIO (power), 60 VCCINT (power), 78 GNDIO (power), 89 GNDINT (power), 90 VCCINT (power), 108 GNDIO (power), 122 VCCINT (power), 127 VCCINT (power), 128 GNDINT (power), 132 GNDIO (power), 137 GNDINT (power), 140 VCCINT (power), 144 VCC_CKLK (power), 145 VCCINT (power), 146 GNDINT (power), 147 GND_CKLK (power), 162 GNDINT (power), 165 GNDIO (power), 167 GNDINT (power), 168 VCCINT (power), 175 GNDINT (power), 176 VCCINT (power), 179 VCCINT (power), 188 GNDIO (power), 210 VCCINT (power), 211 GNDINT (power), 218 GNDIO (power), 240 GNDIO (power)

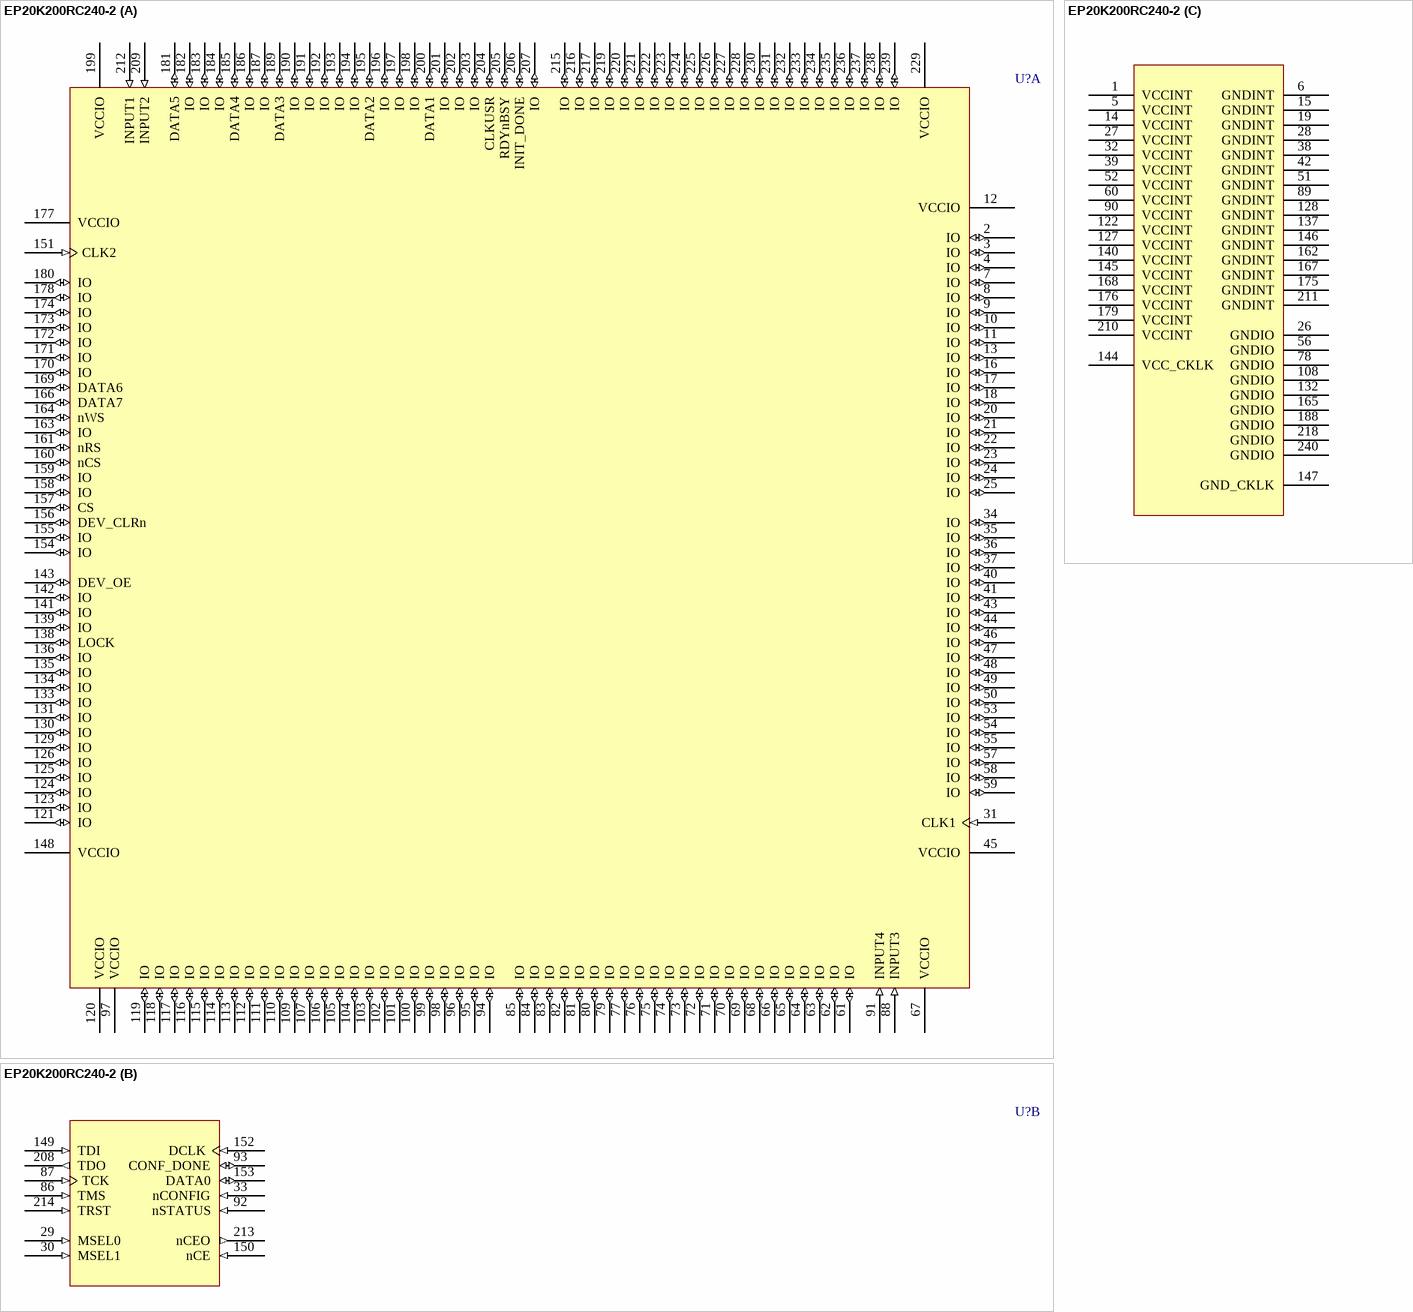
[diagram p79: symbol EP20K200RC240-2]

## EP20K200RC240-2
designator U?
APEX 20K200 PLD, 240-Pin RQFP, Commercial Grade, Speed Grade 2; Published: 17-Jul-2002; LatestRevisionDate: 13-Apr-2006; LatestRevisionNote: IPC-7351 Footprint Added.; DatasheetVersion: Mar-2004; PackageVersion: ver14.1, Oct-2005; PackageReference: RQFP240; Publisher: Altium Limited; PackageDescription: 240-Pin Power Quad Flat Pack (RQFP240); Code_JEDEC: MS-029-GA; ComponentLink1Description: Manufacturer Link; ComponentLink1URL: http://www.altera.com/products/devices/apex/apx-index.html; ComponentLink2Description: Datasheet; ComponentLink2URL: http://www.altera.com/literature/ds/apex.pdf
footprint RQFP240_N (Shrink QFP, 240-Leads, Body 32x32mm, Pitch 0.5mm, IPC Medium Density)
footprint RQFP240_L (Shrink QFP, 240-Leads, Body 32x32mm, Pitch 0.5mm, IPC High Density)
footprint RQFP240_M (Shrink QFP, 240-Leads, Body 32x32mm, Pitch 0.5mm, IPC Low Density)
3D model EP20K200-RQFP240 (240-Pin Power Quad Flat Pack (RQFP240))
part A pins: 2 IO (io), 3 IO (io), 4 IO (io), 7 IO (io), 8 IO (io), 9 IO (io), 10 IO (io), 11 IO (io), 12 VCCIO (power), 13 IO (io), 16 IO (io), 17 IO (io), 18 IO (io), 20 IO (io), 21 IO (io), 22 IO (io), 23 IO (io), 24 IO (io), 25 IO (io), 31 CLK1 (in), 34 IO (io), 35 IO (io), 36 IO (io), 37 IO (io), 40 IO (io), 41 IO (io), 43 IO (io), 44 IO (io), 45 VCCIO (power), 46 IO (io), 47 IO (io), 48 IO (io), 49 IO (io), 50 IO (io), 53 IO (io), 54 IO (io), 55 IO (io), 57 IO (io), 58 IO (io), 59 IO (io), 61 IO (io), 62 IO (io), 63 IO (io), 64 IO (io), 65 IO (io), 66 IO (io), 67 VCCIO (power), 68 IO (io), 69 IO (io), 70 IO (io), 71 IO (io), 72 IO (io), 73 IO (io), 74 IO (io), 75 IO (io), 76 IO (io), 77 IO (io), 79 IO (io), 80 IO (io), 81 IO (io), 82 IO (io), 83 IO (io), 84 IO (io), 85 IO (io), 88 INPUT3 (in), 91 INPUT4 (in), 94 IO (io), 95 IO (io), 96 IO (io), 97 VCCIO (power), 98 IO (io), 99 IO (io), 100 IO (io), 101 IO (io), 102 IO (io), 103 IO (io), 104 IO (io), 105 IO (io), 106 IO (io), 107 IO (io), 109 IO (io), 110 IO (io), 111 IO (io), 112 IO (io), 113 IO (io), 114 IO (io), 115 IO (io), 116 IO (io), 117 IO (io), 118 IO (io), 119 IO (io), 120 VCCIO (power), 121 IO (io), 123 IO (io), 124 IO (io), 125 IO (io), 126 IO (io), 129 IO (io), 130 IO (io), 131 IO (io), 133 IO (io), 134 IO (io), 135 IO (io), 136 IO (io), 138 LOCK (io), 139 IO (io), 141 IO (io), 142 IO (io), 143 DEV_OE (io), 148 VCCIO (power), 151 CLK2 (in), 154 IO (io), 155 IO (io), 156 DEV_CLRn (io), 157 CS (io), 158 IO (io), 159 IO (io), 160 nCS (io), 161 nRS (io), 163 IO (io), 164 nWS (io), 166 DATA7 (io), 169 DATA6 (io), 170 IO (io), 171 IO (io), 172 IO (io), 173 IO (io), 174 IO (io), 177 VCCIO (power), 178 IO (io), 180 IO (io), 181 DATA5 (io), 182 IO (io), 183 IO (io), 184 IO (io), 185 DATA4 (io), 186 IO (io), 187 IO (io), 189 DATA3 (io), 190 IO (io), 191 IO (io), 192 IO (io), 193 IO (io), 194 IO (io), 195 DATA2 (io), 196 IO (io), 197 IO (io), 198 IO (io), 199 VCCIO (power), 200 DATA1 (io), 201 IO (io), 202 IO (io), 203 IO (io), 204 CLKUSR (io), 205 RDYnBSY (io), 206 INIT_DONE (io), 207 IO (io), 209 INPUT2 (in), 212 INPUT1 (in), 215 IO (io), 216 IO (io), 217 IO (io), 219 IO (io), 220 IO (io), 221 IO (io), 222 IO (io), 223 IO (io), 224 IO (io), 225 IO (io), 226 IO (io), 227 IO (io), 228 IO (io), 229 VCCIO (power), 230 IO (io), 231 IO (io), 232 IO (io), 233 IO (io), 234 IO (io), 235 IO (io), 236 IO (io), 237 IO (io), 238 IO (io), 239 IO (io)
part B pins: 29 MSEL0 (in), 30 MSEL1 (in), 33 nCONFIG (in), 86 TMS (in), 87 TCK (in), 92 nSTATUS (in), 93 CONF_DONE (io), 149 TDI (in), 150 nCE (in), 152 DCLK (in), 153 DATA0 (io), 208 TDO (out), 213 nCEO (out), 214 TRST (in)
part C pins: 1 VCCINT (power), 5 VCCINT (power), 6 GNDINT (power), 14 VCCINT (power), 15 GNDINT (power), 19 GNDINT (power), 26 GNDIO (power), 27 VCCINT (power), 28 GNDINT (power), 32 VCCINT (power), 38 GNDINT (power), 39 VCCINT (power), 42 GNDINT (power), 51 GNDINT (power), 52 VCCINT (power), 56 GNDIO (power), 60 VCCINT (power), 78 GNDIO (power), 89 GNDINT (power), 90 VCCINT (power), 108 GNDIO (power), 122 VCCINT (power), 127 VCCINT (power), 128 GNDINT (power), 132 GNDIO (power), 137 GNDINT (power), 140 VCCINT (power), 144 VCC_CKLK (power), 145 VCCINT (power), 146 GNDINT (power), 147 GND_CKLK (power), 162 GNDINT (power), 165 GNDIO (power), 167 GNDINT (power), 168 VCCINT (power), 175 GNDINT (power), 176 VCCINT (power), 179 VCCINT (power), 188 GNDIO (power), 210 VCCINT (power), 211 GNDINT (power), 218 GNDIO (power), 240 GNDIO (power)

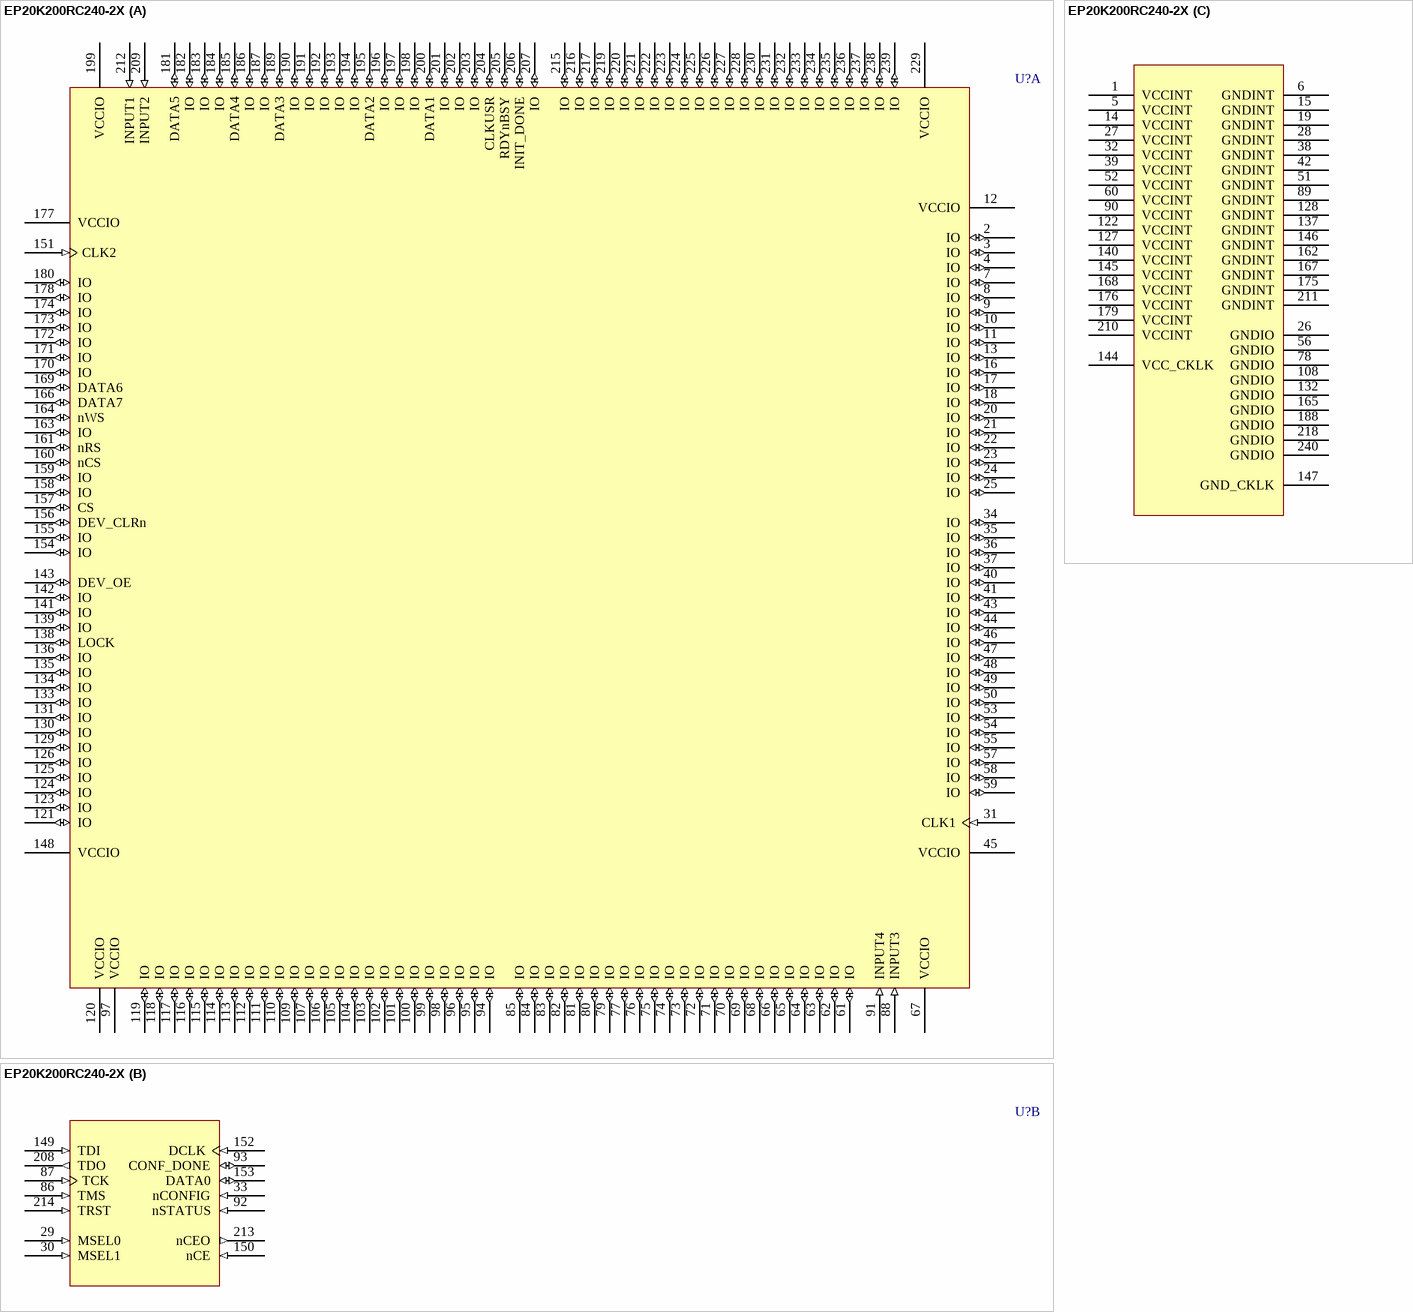
[diagram p80: symbol EP20K200RC240-2X]

## EP20K200RC240-2X
designator U?
APEX 20K200 PLD with PLLs, 240-Pin RQFP, Commercial Grade, Speed Grade 2; Published: 17-Jul-2002; LatestRevisionDate: 13-Apr-2006; LatestRevisionNote: IPC-7351 Footprint Added.; DatasheetVersion: Mar-2004; PackageVersion: ver14.1, Oct-2005; PackageReference: RQFP240; Publisher: Altium Limited; PackageDescription: 240-Pin Power Quad Flat Pack (RQFP240); Code_JEDEC: MS-029-GA; ComponentLink1Description: Manufacturer Link; ComponentLink1URL: http://www.altera.com/products/devices/apex/apx-index.html; ComponentLink2Description: Datasheet; ComponentLink2URL: http://www.altera.com/literature/ds/apex.pdf
footprint RQFP240_N (Shrink QFP, 240-Leads, Body 32x32mm, Pitch 0.5mm, IPC Medium Density)
footprint RQFP240_L (Shrink QFP, 240-Leads, Body 32x32mm, Pitch 0.5mm, IPC High Density)
footprint RQFP240_M (Shrink QFP, 240-Leads, Body 32x32mm, Pitch 0.5mm, IPC Low Density)
3D model EP20K200-RQFP240 (240-Pin Power Quad Flat Pack (RQFP240))
part A pins: 2 IO (io), 3 IO (io), 4 IO (io), 7 IO (io), 8 IO (io), 9 IO (io), 10 IO (io), 11 IO (io), 12 VCCIO (power), 13 IO (io), 16 IO (io), 17 IO (io), 18 IO (io), 20 IO (io), 21 IO (io), 22 IO (io), 23 IO (io), 24 IO (io), 25 IO (io), 31 CLK1 (in), 34 IO (io), 35 IO (io), 36 IO (io), 37 IO (io), 40 IO (io), 41 IO (io), 43 IO (io), 44 IO (io), 45 VCCIO (power), 46 IO (io), 47 IO (io), 48 IO (io), 49 IO (io), 50 IO (io), 53 IO (io), 54 IO (io), 55 IO (io), 57 IO (io), 58 IO (io), 59 IO (io), 61 IO (io), 62 IO (io), 63 IO (io), 64 IO (io), 65 IO (io), 66 IO (io), 67 VCCIO (power), 68 IO (io), 69 IO (io), 70 IO (io), 71 IO (io), 72 IO (io), 73 IO (io), 74 IO (io), 75 IO (io), 76 IO (io), 77 IO (io), 79 IO (io), 80 IO (io), 81 IO (io), 82 IO (io), 83 IO (io), 84 IO (io), 85 IO (io), 88 INPUT3 (in), 91 INPUT4 (in), 94 IO (io), 95 IO (io), 96 IO (io), 97 VCCIO (power), 98 IO (io), 99 IO (io), 100 IO (io), 101 IO (io), 102 IO (io), 103 IO (io), 104 IO (io), 105 IO (io), 106 IO (io), 107 IO (io), 109 IO (io), 110 IO (io), 111 IO (io), 112 IO (io), 113 IO (io), 114 IO (io), 115 IO (io), 116 IO (io), 117 IO (io), 118 IO (io), 119 IO (io), 120 VCCIO (power), 121 IO (io), 123 IO (io), 124 IO (io), 125 IO (io), 126 IO (io), 129 IO (io), 130 IO (io), 131 IO (io), 133 IO (io), 134 IO (io), 135 IO (io), 136 IO (io), 138 LOCK (io), 139 IO (io), 141 IO (io), 142 IO (io), 143 DEV_OE (io), 148 VCCIO (power), 151 CLK2 (in), 154 IO (io), 155 IO (io), 156 DEV_CLRn (io), 157 CS (io), 158 IO (io), 159 IO (io), 160 nCS (io), 161 nRS (io), 163 IO (io), 164 nWS (io), 166 DATA7 (io), 169 DATA6 (io), 170 IO (io), 171 IO (io), 172 IO (io), 173 IO (io), 174 IO (io), 177 VCCIO (power), 178 IO (io), 180 IO (io), 181 DATA5 (io), 182 IO (io), 183 IO (io), 184 IO (io), 185 DATA4 (io), 186 IO (io), 187 IO (io), 189 DATA3 (io), 190 IO (io), 191 IO (io), 192 IO (io), 193 IO (io), 194 IO (io), 195 DATA2 (io), 196 IO (io), 197 IO (io), 198 IO (io), 199 VCCIO (power), 200 DATA1 (io), 201 IO (io), 202 IO (io), 203 IO (io), 204 CLKUSR (io), 205 RDYnBSY (io), 206 INIT_DONE (io), 207 IO (io), 209 INPUT2 (in), 212 INPUT1 (in), 215 IO (io), 216 IO (io), 217 IO (io), 219 IO (io), 220 IO (io), 221 IO (io), 222 IO (io), 223 IO (io), 224 IO (io), 225 IO (io), 226 IO (io), 227 IO (io), 228 IO (io), 229 VCCIO (power), 230 IO (io), 231 IO (io), 232 IO (io), 233 IO (io), 234 IO (io), 235 IO (io), 236 IO (io), 237 IO (io), 238 IO (io), 239 IO (io)
part B pins: 29 MSEL0 (in), 30 MSEL1 (in), 33 nCONFIG (in), 86 TMS (in), 87 TCK (in), 92 nSTATUS (in), 93 CONF_DONE (io), 149 TDI (in), 150 nCE (in), 152 DCLK (in), 153 DATA0 (io), 208 TDO (out), 213 nCEO (out), 214 TRST (in)
part C pins: 1 VCCINT (power), 5 VCCINT (power), 6 GNDINT (power), 14 VCCINT (power), 15 GNDINT (power), 19 GNDINT (power), 26 GNDIO (power), 27 VCCINT (power), 28 GNDINT (power), 32 VCCINT (power), 38 GNDINT (power), 39 VCCINT (power), 42 GNDINT (power), 51 GNDINT (power), 52 VCCINT (power), 56 GNDIO (power), 60 VCCINT (power), 78 GNDIO (power), 89 GNDINT (power), 90 VCCINT (power), 108 GNDIO (power), 122 VCCINT (power), 127 VCCINT (power), 128 GNDINT (power), 132 GNDIO (power), 137 GNDINT (power), 140 VCCINT (power), 144 VCC_CKLK (power), 145 VCCINT (power), 146 GNDINT (power), 147 GND_CKLK (power), 162 GNDINT (power), 165 GNDIO (power), 167 GNDINT (power), 168 VCCINT (power), 175 GNDINT (power), 176 VCCINT (power), 179 VCCINT (power), 188 GNDIO (power), 210 VCCINT (power), 211 GNDINT (power), 218 GNDIO (power), 240 GNDIO (power)

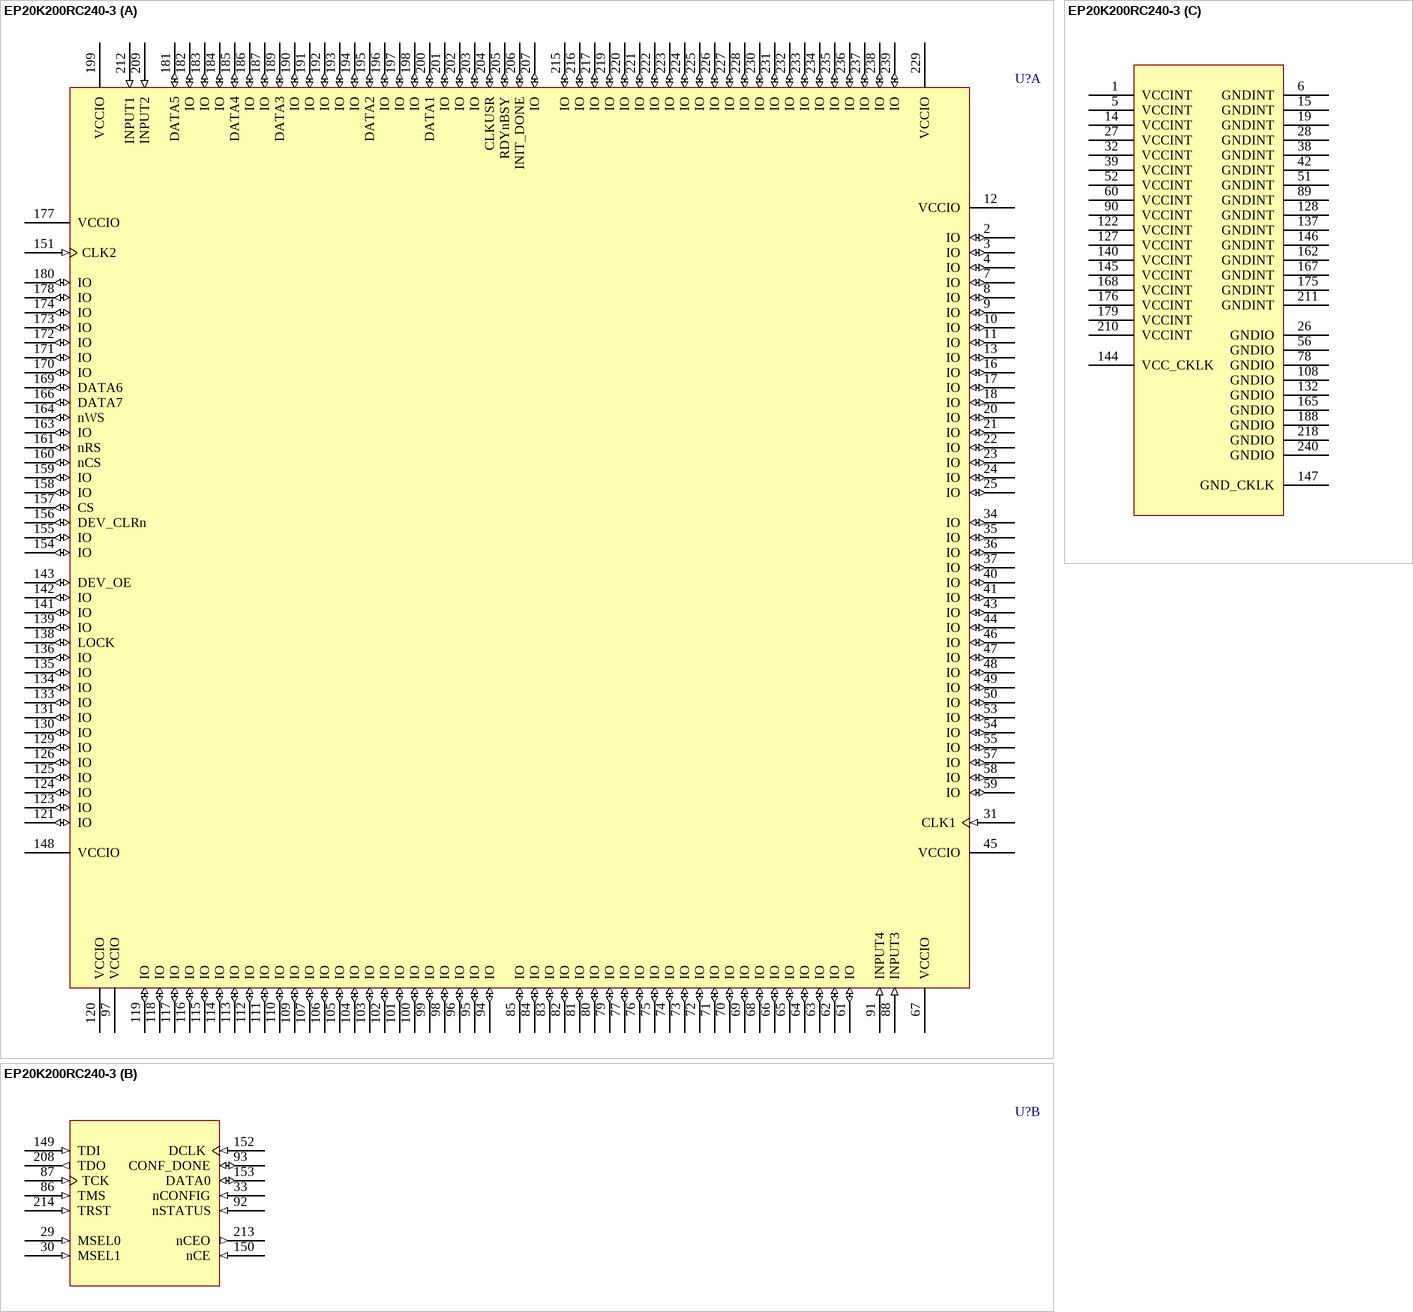
[diagram p81: symbol EP20K200RC240-3]

## EP20K200RC240-3
designator U?
APEX 20K200 PLD, 240-Pin RQFP, Commercial Grade, Speed Grade 3; Published: 17-Jul-2002; LatestRevisionDate: 13-Apr-2006; LatestRevisionNote: IPC-7351 Footprint Added.; DatasheetVersion: Mar-2004; PackageVersion: ver14.1, Oct-2005; PackageReference: RQFP240; Publisher: Altium Limited; PackageDescription: 240-Pin Power Quad Flat Pack (RQFP240); Code_JEDEC: MS-029-GA; ComponentLink1Description: Manufacturer Link; ComponentLink1URL: http://www.altera.com/products/devices/apex/apx-index.html; ComponentLink2Description: Datasheet; ComponentLink2URL: http://www.altera.com/literature/ds/apex.pdf
footprint RQFP240_N (Shrink QFP, 240-Leads, Body 32x32mm, Pitch 0.5mm, IPC Medium Density)
footprint RQFP240_L (Shrink QFP, 240-Leads, Body 32x32mm, Pitch 0.5mm, IPC High Density)
footprint RQFP240_M (Shrink QFP, 240-Leads, Body 32x32mm, Pitch 0.5mm, IPC Low Density)
3D model EP20K200-RQFP240 (240-Pin Power Quad Flat Pack (RQFP240))
part A pins: 2 IO (io), 3 IO (io), 4 IO (io), 7 IO (io), 8 IO (io), 9 IO (io), 10 IO (io), 11 IO (io), 12 VCCIO (power), 13 IO (io), 16 IO (io), 17 IO (io), 18 IO (io), 20 IO (io), 21 IO (io), 22 IO (io), 23 IO (io), 24 IO (io), 25 IO (io), 31 CLK1 (in), 34 IO (io), 35 IO (io), 36 IO (io), 37 IO (io), 40 IO (io), 41 IO (io), 43 IO (io), 44 IO (io), 45 VCCIO (power), 46 IO (io), 47 IO (io), 48 IO (io), 49 IO (io), 50 IO (io), 53 IO (io), 54 IO (io), 55 IO (io), 57 IO (io), 58 IO (io), 59 IO (io), 61 IO (io), 62 IO (io), 63 IO (io), 64 IO (io), 65 IO (io), 66 IO (io), 67 VCCIO (power), 68 IO (io), 69 IO (io), 70 IO (io), 71 IO (io), 72 IO (io), 73 IO (io), 74 IO (io), 75 IO (io), 76 IO (io), 77 IO (io), 79 IO (io), 80 IO (io), 81 IO (io), 82 IO (io), 83 IO (io), 84 IO (io), 85 IO (io), 88 INPUT3 (in), 91 INPUT4 (in), 94 IO (io), 95 IO (io), 96 IO (io), 97 VCCIO (power), 98 IO (io), 99 IO (io), 100 IO (io), 101 IO (io), 102 IO (io), 103 IO (io), 104 IO (io), 105 IO (io), 106 IO (io), 107 IO (io), 109 IO (io), 110 IO (io), 111 IO (io), 112 IO (io), 113 IO (io), 114 IO (io), 115 IO (io), 116 IO (io), 117 IO (io), 118 IO (io), 119 IO (io), 120 VCCIO (power), 121 IO (io), 123 IO (io), 124 IO (io), 125 IO (io), 126 IO (io), 129 IO (io), 130 IO (io), 131 IO (io), 133 IO (io), 134 IO (io), 135 IO (io), 136 IO (io), 138 LOCK (io), 139 IO (io), 141 IO (io), 142 IO (io), 143 DEV_OE (io), 148 VCCIO (power), 151 CLK2 (in), 154 IO (io), 155 IO (io), 156 DEV_CLRn (io), 157 CS (io), 158 IO (io), 159 IO (io), 160 nCS (io), 161 nRS (io), 163 IO (io), 164 nWS (io), 166 DATA7 (io), 169 DATA6 (io), 170 IO (io), 171 IO (io), 172 IO (io), 173 IO (io), 174 IO (io), 177 VCCIO (power), 178 IO (io), 180 IO (io), 181 DATA5 (io), 182 IO (io), 183 IO (io), 184 IO (io), 185 DATA4 (io), 186 IO (io), 187 IO (io), 189 DATA3 (io), 190 IO (io), 191 IO (io), 192 IO (io), 193 IO (io), 194 IO (io), 195 DATA2 (io), 196 IO (io), 197 IO (io), 198 IO (io), 199 VCCIO (power), 200 DATA1 (io), 201 IO (io), 202 IO (io), 203 IO (io), 204 CLKUSR (io), 205 RDYnBSY (io), 206 INIT_DONE (io), 207 IO (io), 209 INPUT2 (in), 212 INPUT1 (in), 215 IO (io), 216 IO (io), 217 IO (io), 219 IO (io), 220 IO (io), 221 IO (io), 222 IO (io), 223 IO (io), 224 IO (io), 225 IO (io), 226 IO (io), 227 IO (io), 228 IO (io), 229 VCCIO (power), 230 IO (io), 231 IO (io), 232 IO (io), 233 IO (io), 234 IO (io), 235 IO (io), 236 IO (io), 237 IO (io), 238 IO (io), 239 IO (io)
part B pins: 29 MSEL0 (in), 30 MSEL1 (in), 33 nCONFIG (in), 86 TMS (in), 87 TCK (in), 92 nSTATUS (in), 93 CONF_DONE (io), 149 TDI (in), 150 nCE (in), 152 DCLK (in), 153 DATA0 (io), 208 TDO (out), 213 nCEO (out), 214 TRST (in)
part C pins: 1 VCCINT (power), 5 VCCINT (power), 6 GNDINT (power), 14 VCCINT (power), 15 GNDINT (power), 19 GNDINT (power), 26 GNDIO (power), 27 VCCINT (power), 28 GNDINT (power), 32 VCCINT (power), 38 GNDINT (power), 39 VCCINT (power), 42 GNDINT (power), 51 GNDINT (power), 52 VCCINT (power), 56 GNDIO (power), 60 VCCINT (power), 78 GNDIO (power), 89 GNDINT (power), 90 VCCINT (power), 108 GNDIO (power), 122 VCCINT (power), 127 VCCINT (power), 128 GNDINT (power), 132 GNDIO (power), 137 GNDINT (power), 140 VCCINT (power), 144 VCC_CKLK (power), 145 VCCINT (power), 146 GNDINT (power), 147 GND_CKLK (power), 162 GNDINT (power), 165 GNDIO (power), 167 GNDINT (power), 168 VCCINT (power), 175 GNDINT (power), 176 VCCINT (power), 179 VCCINT (power), 188 GNDIO (power), 210 VCCINT (power), 211 GNDINT (power), 218 GNDIO (power), 240 GNDIO (power)

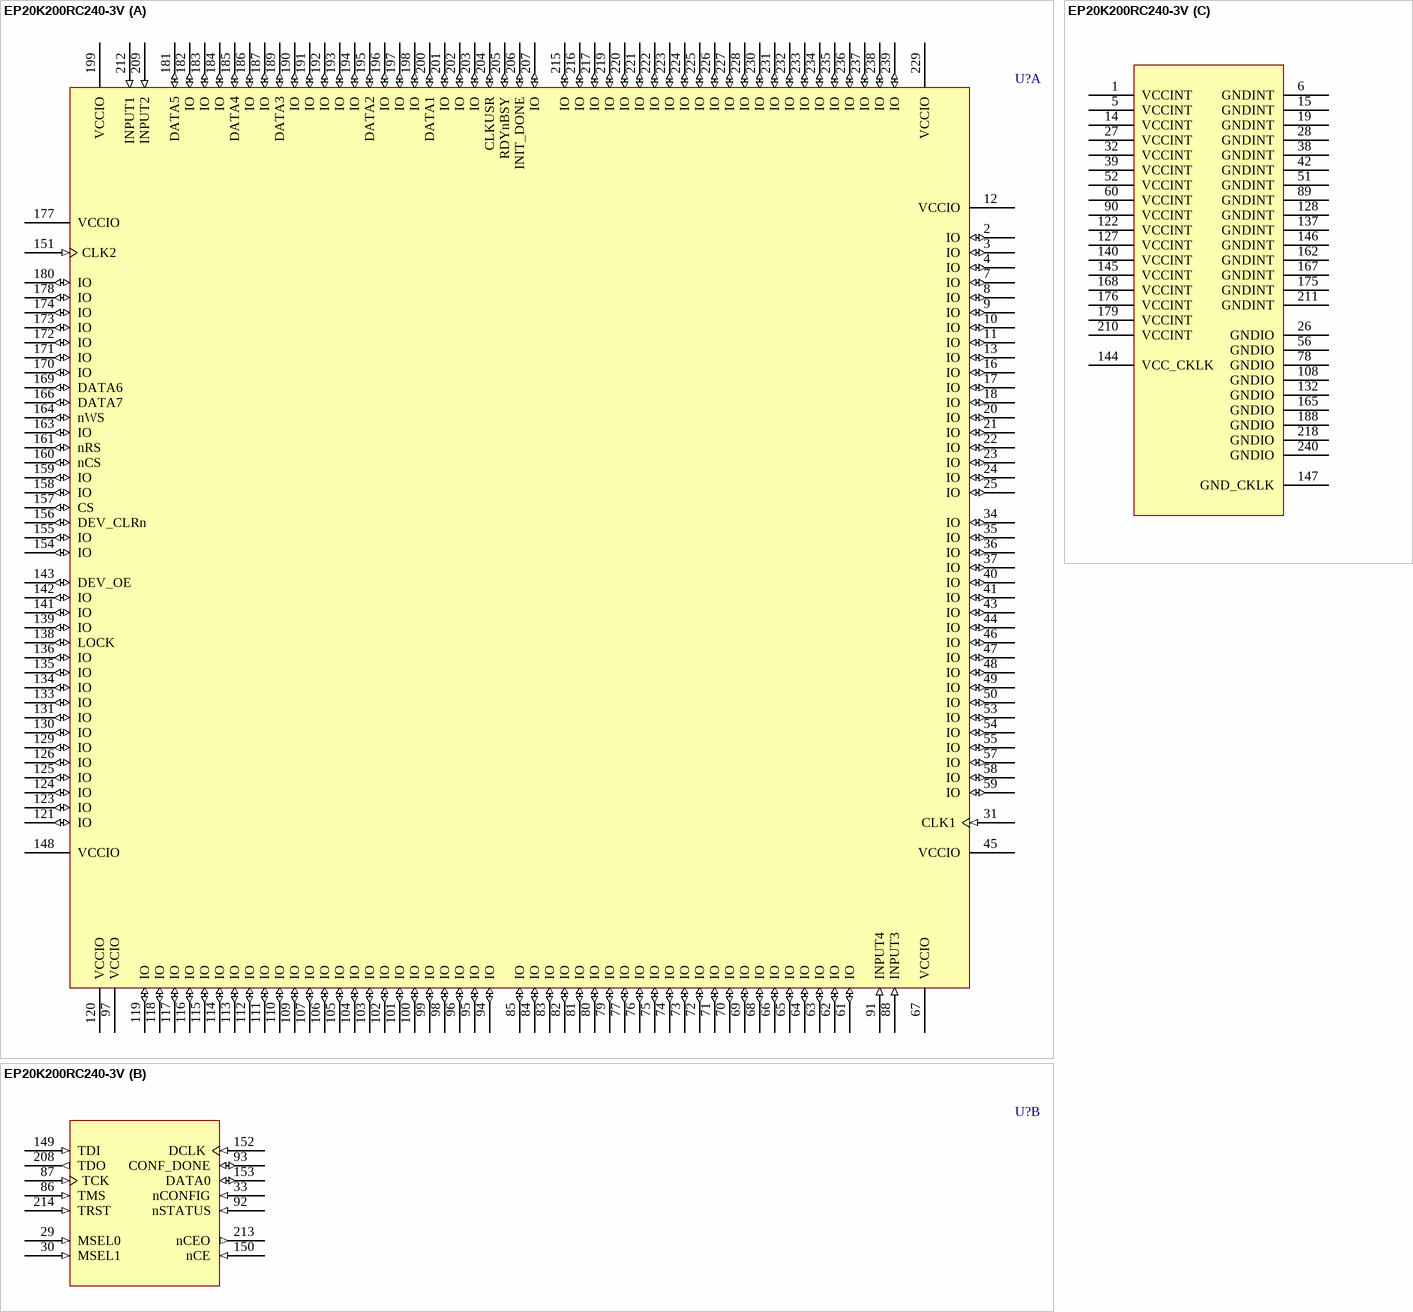
[diagram p82: symbol EP20K200RC240-3V]

## EP20K200RC240-3V
designator U?
APEX 20K200  PLD with 5 V tolerant inputs, 240-Pin RQFP, Commercial Grade, Speed Grade 3; Published: 17-Jul-2002; LatestRevisionDate: 13-Apr-2006; LatestRevisionNote: IPC-7351 Footprint Added.; DatasheetVersion: Mar-2004; PackageVersion: ver14.1, Oct-2005; PackageReference: RQFP240; Publisher: Altium Limited; PackageDescription: 240-Pin Power Quad Flat Pack (RQFP240); Code_JEDEC: MS-029-GA; ComponentLink1Description: Manufacturer Link; ComponentLink1URL: http://www.altera.com/products/devices/apex/apx-index.html; ComponentLink2Description: Datasheet; ComponentLink2URL: http://www.altera.com/literature/ds/apex.pdf
footprint RQFP240_N (Shrink QFP, 240-Leads, Body 32x32mm, Pitch 0.5mm, IPC Medium Density)
footprint RQFP240_L (Shrink QFP, 240-Leads, Body 32x32mm, Pitch 0.5mm, IPC High Density)
footprint RQFP240_M (Shrink QFP, 240-Leads, Body 32x32mm, Pitch 0.5mm, IPC Low Density)
3D model EP20K200-RQFP240 (240-Pin Power Quad Flat Pack (RQFP240))
part A pins: 2 IO (io), 3 IO (io), 4 IO (io), 7 IO (io), 8 IO (io), 9 IO (io), 10 IO (io), 11 IO (io), 12 VCCIO (power), 13 IO (io), 16 IO (io), 17 IO (io), 18 IO (io), 20 IO (io), 21 IO (io), 22 IO (io), 23 IO (io), 24 IO (io), 25 IO (io), 31 CLK1 (in), 34 IO (io), 35 IO (io), 36 IO (io), 37 IO (io), 40 IO (io), 41 IO (io), 43 IO (io), 44 IO (io), 45 VCCIO (power), 46 IO (io), 47 IO (io), 48 IO (io), 49 IO (io), 50 IO (io), 53 IO (io), 54 IO (io), 55 IO (io), 57 IO (io), 58 IO (io), 59 IO (io), 61 IO (io), 62 IO (io), 63 IO (io), 64 IO (io), 65 IO (io), 66 IO (io), 67 VCCIO (power), 68 IO (io), 69 IO (io), 70 IO (io), 71 IO (io), 72 IO (io), 73 IO (io), 74 IO (io), 75 IO (io), 76 IO (io), 77 IO (io), 79 IO (io), 80 IO (io), 81 IO (io), 82 IO (io), 83 IO (io), 84 IO (io), 85 IO (io), 88 INPUT3 (in), 91 INPUT4 (in), 94 IO (io), 95 IO (io), 96 IO (io), 97 VCCIO (power), 98 IO (io), 99 IO (io), 100 IO (io), 101 IO (io), 102 IO (io), 103 IO (io), 104 IO (io), 105 IO (io), 106 IO (io), 107 IO (io), 109 IO (io), 110 IO (io), 111 IO (io), 112 IO (io), 113 IO (io), 114 IO (io), 115 IO (io), 116 IO (io), 117 IO (io), 118 IO (io), 119 IO (io), 120 VCCIO (power), 121 IO (io), 123 IO (io), 124 IO (io), 125 IO (io), 126 IO (io), 129 IO (io), 130 IO (io), 131 IO (io), 133 IO (io), 134 IO (io), 135 IO (io), 136 IO (io), 138 LOCK (io), 139 IO (io), 141 IO (io), 142 IO (io), 143 DEV_OE (io), 148 VCCIO (power), 151 CLK2 (in), 154 IO (io), 155 IO (io), 156 DEV_CLRn (io), 157 CS (io), 158 IO (io), 159 IO (io), 160 nCS (io), 161 nRS (io), 163 IO (io), 164 nWS (io), 166 DATA7 (io), 169 DATA6 (io), 170 IO (io), 171 IO (io), 172 IO (io), 173 IO (io), 174 IO (io), 177 VCCIO (power), 178 IO (io), 180 IO (io), 181 DATA5 (io), 182 IO (io), 183 IO (io), 184 IO (io), 185 DATA4 (io), 186 IO (io), 187 IO (io), 189 DATA3 (io), 190 IO (io), 191 IO (io), 192 IO (io), 193 IO (io), 194 IO (io), 195 DATA2 (io), 196 IO (io), 197 IO (io), 198 IO (io), 199 VCCIO (power), 200 DATA1 (io), 201 IO (io), 202 IO (io), 203 IO (io), 204 CLKUSR (io), 205 RDYnBSY (io), 206 INIT_DONE (io), 207 IO (io), 209 INPUT2 (in), 212 INPUT1 (in), 215 IO (io), 216 IO (io), 217 IO (io), 219 IO (io), 220 IO (io), 221 IO (io), 222 IO (io), 223 IO (io), 224 IO (io), 225 IO (io), 226 IO (io), 227 IO (io), 228 IO (io), 229 VCCIO (power), 230 IO (io), 231 IO (io), 232 IO (io), 233 IO (io), 234 IO (io), 235 IO (io), 236 IO (io), 237 IO (io), 238 IO (io), 239 IO (io)
part B pins: 29 MSEL0 (in), 30 MSEL1 (in), 33 nCONFIG (in), 86 TMS (in), 87 TCK (in), 92 nSTATUS (in), 93 CONF_DONE (io), 149 TDI (in), 150 nCE (in), 152 DCLK (in), 153 DATA0 (io), 208 TDO (out), 213 nCEO (out), 214 TRST (in)
part C pins: 1 VCCINT (power), 5 VCCINT (power), 6 GNDINT (power), 14 VCCINT (power), 15 GNDINT (power), 19 GNDINT (power), 26 GNDIO (power), 27 VCCINT (power), 28 GNDINT (power), 32 VCCINT (power), 38 GNDINT (power), 39 VCCINT (power), 42 GNDINT (power), 51 GNDINT (power), 52 VCCINT (power), 56 GNDIO (power), 60 VCCINT (power), 78 GNDIO (power), 89 GNDINT (power), 90 VCCINT (power), 108 GNDIO (power), 122 VCCINT (power), 127 VCCINT (power), 128 GNDINT (power), 132 GNDIO (power), 137 GNDINT (power), 140 VCCINT (power), 144 VCC_CKLK (power), 145 VCCINT (power), 146 GNDINT (power), 147 GND_CKLK (power), 162 GNDINT (power), 165 GNDIO (power), 167 GNDINT (power), 168 VCCINT (power), 175 GNDINT (power), 176 VCCINT (power), 179 VCCINT (power), 188 GNDIO (power), 210 VCCINT (power), 211 GNDINT (power), 218 GNDIO (power), 240 GNDIO (power)

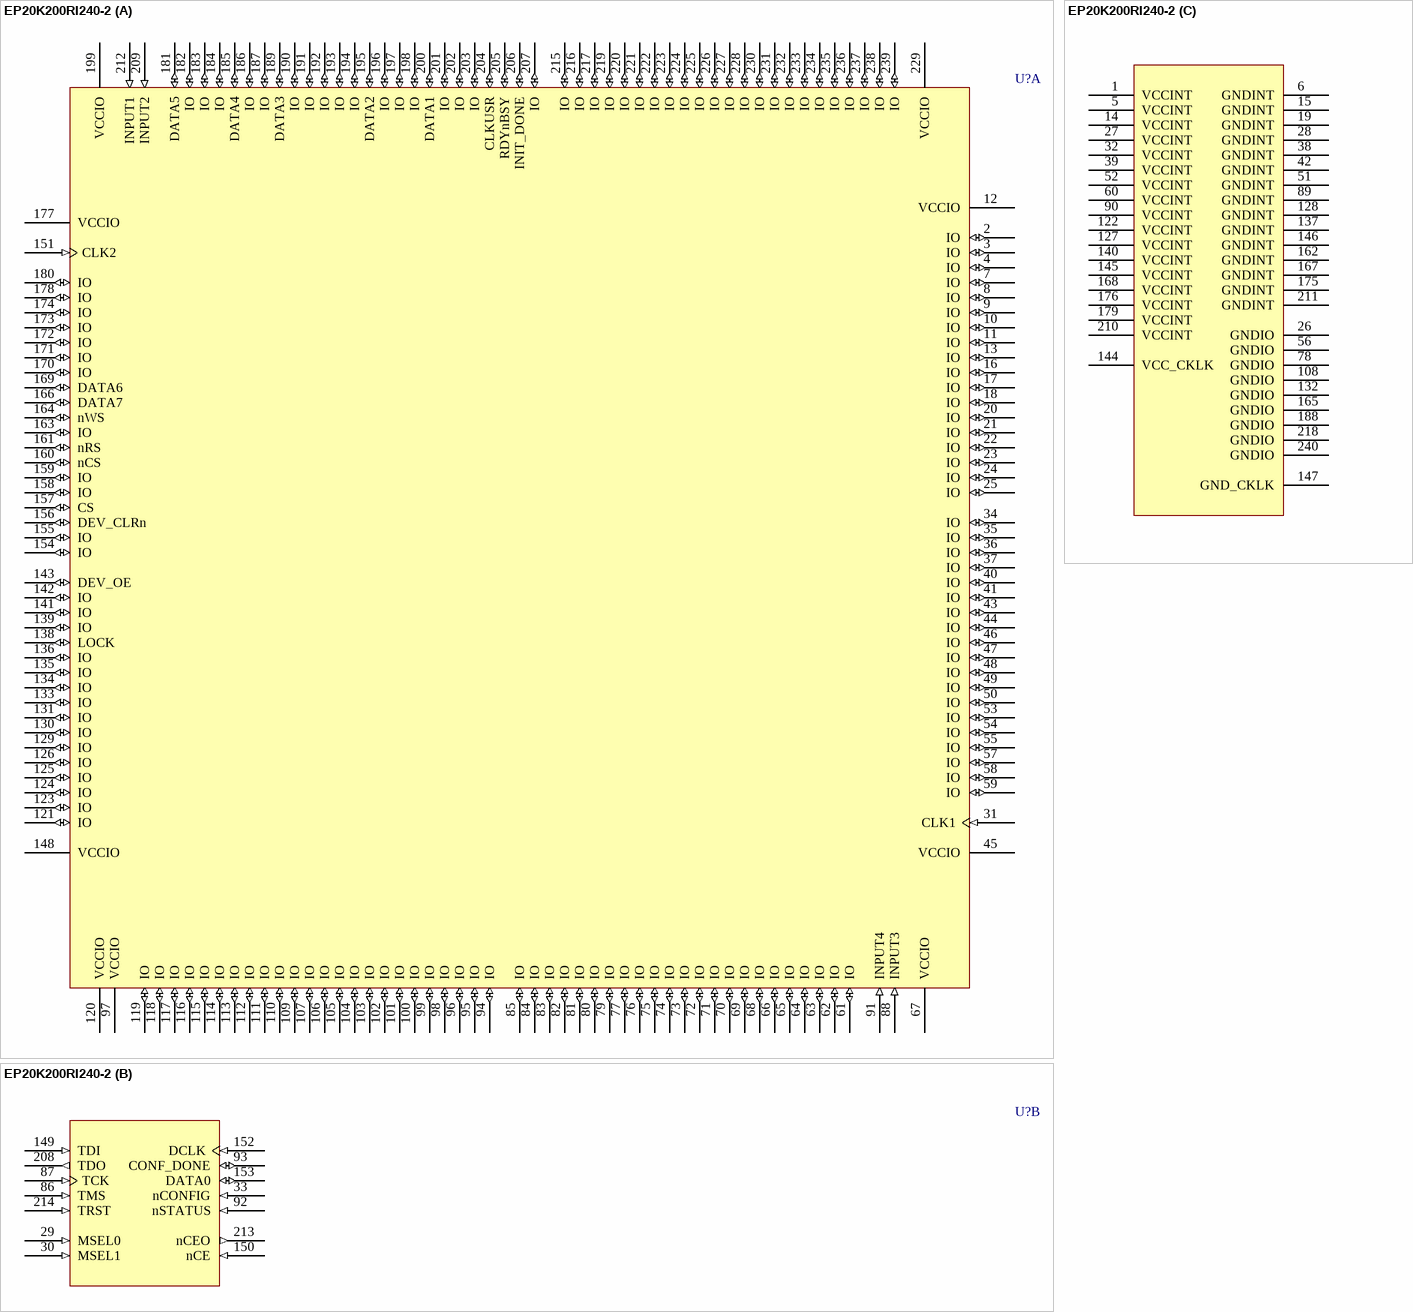
[diagram p83: symbol EP20K200RI240-2]